# Altium schematic symbol library IC_chip.SchLib: 106 symbols (part 1 of 2)
Pins are listed as number, name and electrical type; pins without a type are passive.

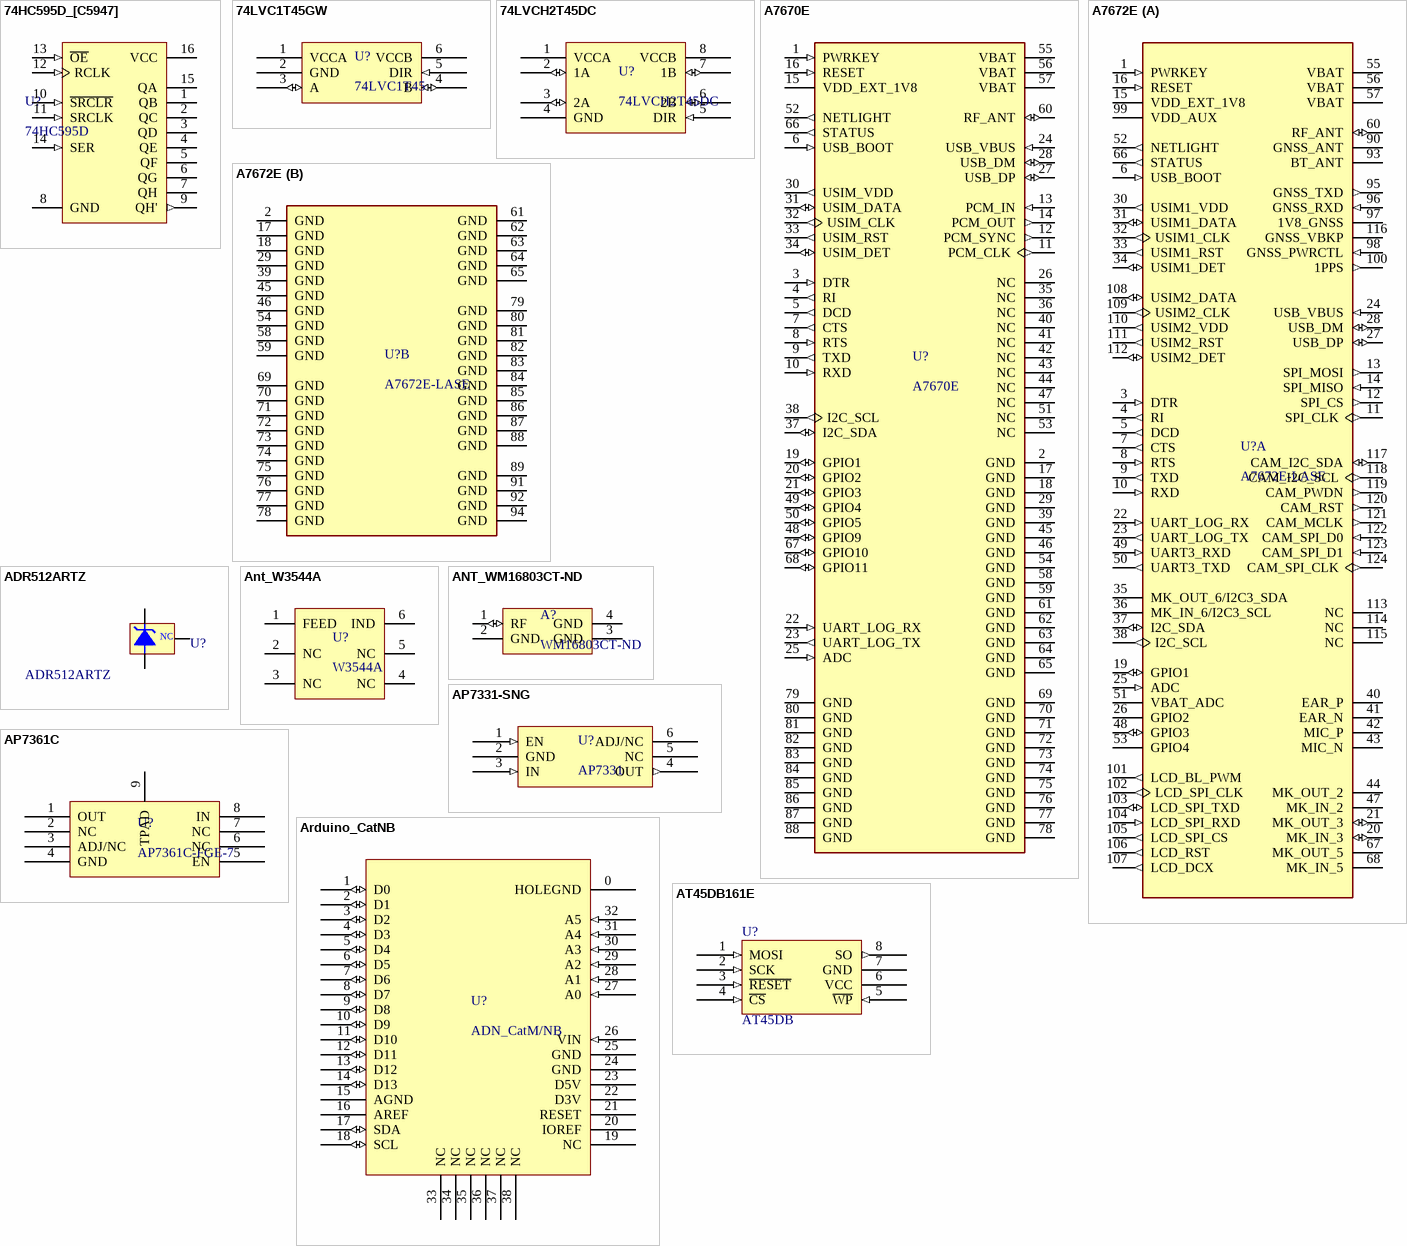
[diagram p0: symbols 74HC595D_[C5947] to AT45DB161E]

## 74HC595D_[C5947]
designator U?, comment 74HC595D
Package: SOIC-16_150mil; Supplier: LC; SuppliersPartNumber: C5947
footprint SOIC-16_150mil
pins: 1 QB (hiz), 2 QC (hiz), 3 QD (hiz), 4 QE (hiz), 5 QF (hiz), 6 QG (hiz), 7 QH (hiz), 8 GND (power), 9 QH' (out), 10 ~{SRCLR} (in), 11 SRCLK (in), 12 RCLK (in), 13 ~{OE} (in), 14 SER (in), 15 QA (hiz), 16 VCC (power)

## 74LVC1T45GW
designator U?, comment 74LVC1T45
IC 74LVC1T45GW-W100H Level Translator 6-TSSOP; Anunda_Code: M2037; DigiKey_PN:: 1727-8054-1-ND
footprint SOT363 (SOT363, 6-Leads, Body 2.00x2.10mm, Pitch 0.65mm, IPC Medium Density)
pins: 1 VCCA, 2 GND, 3 A (io), 4 B (io), 5 DIR (in), 6 VCCB

## 74LVCH2T45DC
designator U?
IC 74LVCH2T45DC-Q100H Level Translator VSSOP-8; DigiKey_PN:: 1727-8054-1-ND
footprint VSSOP-8 (TSSOP, 8-Leads, Body 2.00x2.30mm, Pitch 0.50mm, IPC Medium Density)
pins: 1 VCCA, 2 1A (io), 3 2A (io), 4 GND, 5 DIR (in), 6 2B (io), 7 1B (io), 8 VCCB

## A7670E
designator U?
4G LTE Module, SIMCOM A7670E; MP: A7670E; Package: None; MF: Simcom; Value: *; Price: None; SnapEDA_Link: https://www.snapeda.com/parts/SIM7600E-H/SIMcom%20Wireless%20solutions%20Co.%2CLtd/view-part/2758290/?ref=snap; Anunda_Code: *
footprint A7670X (LCC+LGA Package 88pin)
pins: 1 PWRKEY (in), 2 GND (power), 3 DTR (in), 4 RI (out), 5 DCD (out), 6 USB_BOOT (in), 7 CTS (out), 8 RTS (in), 9 TXD (out), 10 RXD (in), 11 PCM_CLK (out), 12 PCM_SYNC (out), 13 PCM_IN (in), 14 PCM_OUT (out), 15 VDD_EXT_1V8 (power), 16 RESET (in), 17 GND (power), 18 GND (power), 19 GPIO1 (io), 20 GPIO2 (io), 21 GPIO3 (io), 22 UART_LOG_RX (in), 23 UART_LOG_TX (out), 24 USB_VBUS (in), 25 ADC (in), 26 NC, 27 USB_DP (io), 28 USB_DM (io), 29 GND (power), 30 USIM_VDD (out), 31 USIM_DATA (io), 32 USIM_CLK (out), 33 USIM_RST (out), 34 USIM_DET (io), 35 NC, 36 NC, 37 I2C_SDA (io), 38 I2C_SCL (out), 39 GND (power), 40 NC, 41 NC, 42 NC, 43 NC, 44 NC, 45 GND (power), 46 GND (power), 47 NC, 48 GPIO9 (io), 49 GPIO4 (io), 50 GPIO5 (io), 51 NC, 52 NETLIGHT (out), 53 NC, 54 GND (power), 55 VBAT (power), 56 VBAT (power), 57 VBAT (power), 58 GND (power), 59 GND (power), 60 RF_ANT (io), 61 GND (power), 62 GND (power), 63 GND (power), 64 GND (power), 65 GND (power), 66 STATUS (out), 67 GPIO10 (io), 68 GPIO11 (io), 69 GND (power), 70 GND (power), 71 GND (power), 72 GND (power), 73 GND (power), 74 GND (power), 75 GND (power), 76 GND (power), 77 GND (power), 78 GND (power), 79 GND (power), 80 GND (power), 81 GND (power), 82 GND (power), 83 GND (power), 84 GND (power), 85 GND (power), 86 GND (power), 87 GND (power), 88 GND (power)

## A7672E
designator U?, comment A7672E-LASE
4G LTE Module, SIMCOM A7672E; MP: A7672E; Package: None; MF: Simcom; Value: A7672E-LASE; Price: None; SnapEDA_Link: https://www.snapeda.com/parts/SIM7600E-H/SIMcom%20Wireless%20solutions%20Co.%2CLtd/view-part/2758290/?ref=snap; Anunda_Code: *; MFG: SIMCOM; MFG P/N: A7672E-LASE
footprint A7672X (LCC+LGA Package 124pin)
part A pins: 1 PWRKEY (in), 3 DTR (in), 4 RI (out), 5 DCD (out), 6 USB_BOOT (in), 7 CTS (out), 8 RTS (in), 9 TXD (out), 10 RXD (in), 11 SPI_CLK (out), 12 SPI_CS (out), 13 SPI_MOSI (out), 14 SPI_MISO (in), 15 VDD_EXT_1V8 (power), 16 RESET (in), 19 GPIO1 (io), 20 MK_IN_3 (io), 21 MK_OUT_3 (io), 22 UART_LOG_RX (in), 23 UART_LOG_TX (out), 24 USB_VBUS (in), 25 ADC (in), 26 GPIO2, 27 USB_DP (io), 28 USB_DM (io), 30 USIM1_VDD (out), 31 USIM1_DATA (io), 32 USIM1_CLK (out), 33 USIM1_RST (out), 34 USIM1_DET (io), 35 MK_OUT_6/I2C3_SDA, 36 MK_IN_6/I2C3_SCL, 37 I2C_SDA (io), 38 I2C_SCL (out), 40 EAR_P, 41 EAR_N, 42 MIC_P, 43 MIC_N, 44 MK_OUT_2, 47 MK_IN_2, 48 GPIO3 (io), 49 UART3_RXD (in), 50 UART3_TXD (out), 51 VBAT_ADC, 52 NETLIGHT (out), 53 GPIO4, 55 VBAT (power), 56 VBAT (power), 57 VBAT (power), 60 RF_ANT (io), 66 STATUS (out), 67 MK_OUT_5, 68 MK_IN_5, 90 GNSS_ANT (power), 93 BT_ANT (power), 95 GNSS_TXD (out), 96 GNSS_RXD (in), 97 1V8_GNSS (power), 98 GNSS_PWRCTL (in), 99 VDD_AUX (power), 100 1PPS (out), 101 LCD_BL_PWM (out), 102 LCD_SPI_CLK (out), 103 LCD_SPI_TXD (io), 104 LCD_SPI_RXD (in), 105 LCD_SPI_CS (out), 106 LCD_RST (out), 107 LCD_DCX (out), 108 USIM2_DATA (io), 109 USIM2_CLK (out), 110 USIM2_VDD (out), 111 USIM2_RST (out), 112 USIM2_DET (io), 113 NC, 114 NC, 115 NC, 116 GNSS_VBKP (power), 117 CAM_I2C_SDA (io), 118 CAM_I2C_SCL (out), 119 CAM_PWDN (out), 120 CAM_RST (out), 121 CAM_MCLK (out), 122 CAM_SPI_D0 (in), 123 CAM_SPI_D1 (in), 124 CAM_SPI_CLK (out)
part B pins: 2 GND (power), 17 GND (power), 18 GND (power), 29 GND (power), 39 GND (power), 45 GND (power), 46 GND (power), 54 GND (power), 58 GND (power), 59 GND (power), 61 GND (power), 62 GND (power), 63 GND (power), 64 GND (power), 65 GND (power), 69 GND (power), 70 GND (power), 71 GND (power), 72 GND (power), 73 GND (power), 74 GND (power), 75 GND (power), 76 GND (power), 77 GND (power), 78 GND (power), 79 GND (power), 80 GND (power), 81 GND (power), 82 GND (power), 83 GND (power), 84 GND (power), 85 GND (power), 86 GND (power), 87 GND (power), 88 GND (power), 89 GND (power), 91 GND (power), 92 GND (power), 94 GND (power)

## ADR512ARTZ
designator U?
ADR512ARTZ VRef Shunt Precision 1.2V SOT-23-3
footprint SOT23_N_2
pins: 1 K, 2 A, 3 NC

## Ant_W3544A
designator U?, comment W3544A
LTE Antenna (W3544A) 850-900/1710-2170MHz PCB Trace; Anunda_Code: N2212
footprint W3544A (PulseLarsen W3544A GSM/3G Antenna)
pins: 1 FEED, 2 NC, 3 NC, 4 NC, 5 NC, 6 IND

## ANT_WM16803CT-ND
designator A?, comment WM16803CT-ND
SMD Ant. molex WM16803CT-ND
footprint WM16803CT-ND (molex gps ant)
pins: 1 RF (io), 2 GND, 3 GND, 4 GND

## AP7331-SNG
designator U?, comment AP7331
300mA, LOW QUIESCENT CU  RRENT, FAST TRANSIENT   LOW DROPOUT LINEAR REGULATOR
footprint DFN2020-6_HS-7N (SON, 6-Leads, Body 2.01x2.01mm, Pitch 0.65mm, Thermal Pad 1.55x0.73mm, IPC Medium Density)
pins: 1 EN (in), 2 GND, 3 IN (in), 4 OUT (out), 5 NC, 6 ADJ/NC

## AP7361C
designator U?, comment AP7361C-FGE-7
AP7361C-FGE-7   Low Dropout Adjustable 1A Regulator; Anunda_Code: M1966; Value: AP7361C-FGE-7
footprint U-DFN3030-8 (SON, 8-Leads, Body 3.00x3.00mm, Pitch 0.65mm, Thermal Pad 2.25x1.34mm, IPC Medium Density)
pins: 1 OUT, 2 NC, 3 ADJ/NC, 4 GND, 5 EN, 6 NC, 7 NC, 8 IN, 9 TPAD

## Arduino_CatNB
designator U?, comment ADN_CatM/NB
Arduino Shield Cat.M1/NB
footprint ADN_NB (Arduino Shield Cat. M1/NB)
pins: 0 HOLEGND, 1 D0 (io), 2 D1 (io), 3 D2 (io), 4 D3 (io), 5 D4 (io), 6 D5 (io), 7 D6 (io), 8 D7 (io), 9 D8 (io), 10 D9 (io), 11 D10 (io), 12 D11 (io), 13 D12 (io), 14 D13 (io), 15 AGND, 16 AREF, 17 SDA (io), 18 SCL (io), 19 NC, 20 IOREF, 21 RESET, 22 D3V (power), 23 D5V (power), 24 GND, 25 GND, 26 VIN (in), 27 A0 (in), 28 A1 (in), 29 A2 (in), 30 A3 (in), 31 A4 (in), 32 A5 (in), 33 NC, 34 NC, 35 NC, 36 NC, 37 NC, 38 NC

## AT45DB161E
designator U?, comment AT45DB
AT45DB161E-SUD-T Flash Memory 16M, 2.5-3.6V SPI SOIC-8; Anunda_Code: M1909
footprint SOIC-8_208mil
pins: 1 MOSI (in), 2 SCK (in), 3 ~{RESET} (in), 4 ~{CS} (in), 5 ~{WP} (in), 6 VCC (power), 7 GND, 8 SO (out)

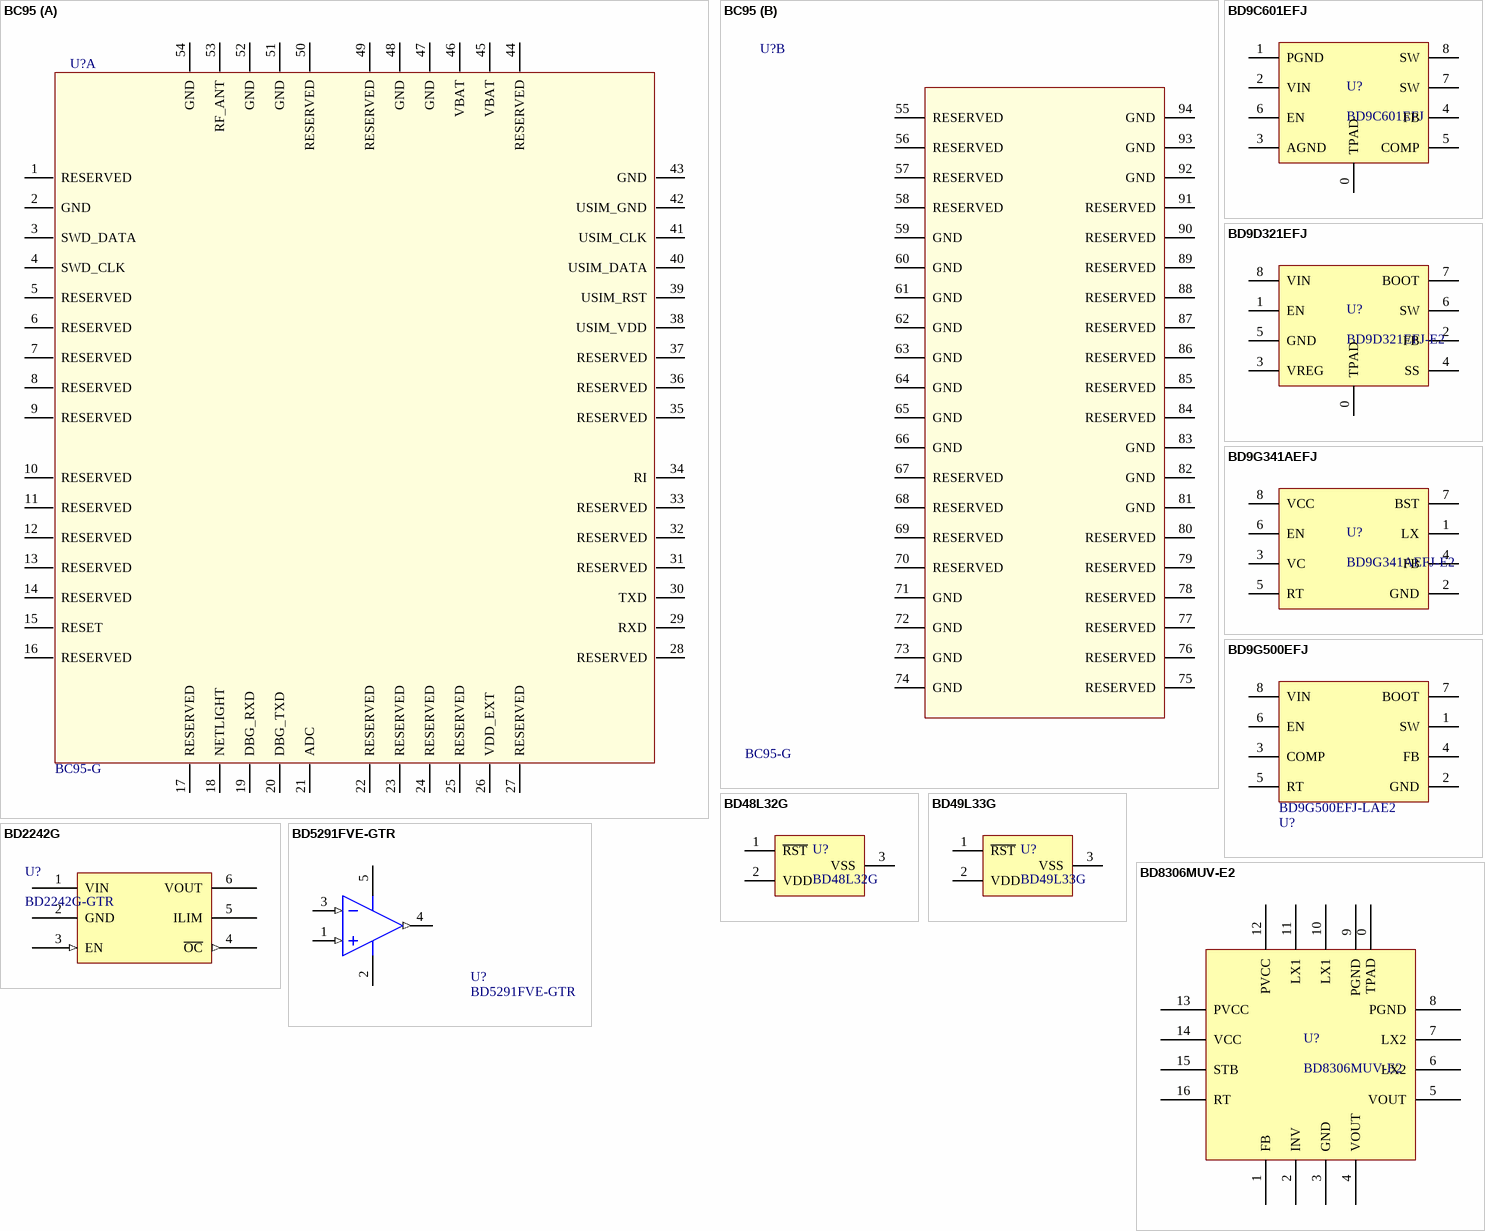
[diagram p1: symbols BC95 to BD8306MUV-E2]

## BC95
designator U?, comment BC95-G
LTE  NB-IoT Module, Model : BC95-G, Quectel; Anunda_Code: N2123; Value: *; Part Description: *; PCB DECAL: *
footprint BC95
part A pins: 1 RESERVED, 2 GND, 3 SWD_DATA, 4 SWD_CLK, 5 RESERVED, 6 RESERVED, 7 RESERVED, 8 RESERVED, 9 RESERVED, 10 RESERVED, 11 RESERVED, 12 RESERVED, 13 RESERVED, 14 RESERVED, 15 RESET, 16 RESERVED, 17 RESERVED, 18 NETLIGHT, 19 DBG_RXD, 20 DBG_TXD, 21 ADC, 22 RESERVED, 23 RESERVED, 24 RESERVED, 25 RESERVED, 26 VDD_EXT, 27 RESERVED, 28 RESERVED, 29 RXD, 30 TXD, 31 RESERVED, 32 RESERVED, 33 RESERVED, 34 RI, 35 RESERVED, 36 RESERVED, 37 RESERVED, 38 USIM_VDD, 39 USIM_RST, 40 USIM_DATA, 41 USIM_CLK, 42 USIM_GND, 43 GND, 44 RESERVED, 45 VBAT, 46 VBAT, 47 GND, 48 GND, 49 RESERVED, 50 RESERVED, 51 GND, 52 GND, 53 RF_ANT, 54 GND
part B pins: 55 RESERVED, 56 RESERVED, 57 RESERVED, 58 RESERVED, 59 GND, 60 GND, 61 GND, 62 GND, 63 GND, 64 GND, 65 GND, 66 GND, 67 RESERVED, 68 RESERVED, 69 RESERVED, 70 RESERVED, 71 GND, 72 GND, 73 GND, 74 GND, 75 RESERVED, 76 RESERVED, 77 RESERVED, 78 RESERVED, 79 RESERVED, 80 RESERVED, 81 GND, 82 GND, 83 GND, 84 RESERVED, 85 RESERVED, 86 RESERVED, 87 RESERVED, 88 RESERVED, 89 RESERVED, 90 RESERVED, 91 RESERVED, 92 GND, 93 GND, 94 GND
2 alternate drawings of the same symbol

## BD9C601EFJ
designator U?
footprint HTSOP-J8 (TSOP, 8-Leads, Body 4.90x3.90mm, Pitch 1.27mm, Thermal Pad 3.20x2.40mm, IPC Medium Density)
pins: 0 TPAD, 1 PGND, 2 VIN, 3 AGND, 4 FB, 5 COMP, 6 EN, 7 SW, 8 SW

## BD9D321EFJ
designator U?, comment BD9D321EFJ-E2
IC BD9D321EFJ-E2 Buck Converter 0.765-7V 3A HTSOP-J8; Anunda_Code: D1094; MFG: Rohm Semiconductor; MFG P/N: BD9D321EFJ-E2; Value: BD9D321EFJ-E2
footprint HTSOP-J8 (TSOP, 8-Leads, Body 4.90x3.90mm, Pitch 1.27mm, Thermal Pad 3.20x2.40mm, IPC Medium Density)
pins: 0 TPAD, 1 EN, 2 FB, 3 VREG, 4 SS, 5 GND, 6 SW, 7 BOOT, 8 VIN

## BD9G341AEFJ
designator U?, comment BD9G341AEFJ-E2
IC BD9G341AEFJ-E2 REGULATOR 12-76V 3A; Anunda_Code: M2139; MFG: Rohm Semiconductor; Value: BD9G341AEFJ-E2; MFG P/N: BD9G341AEFJ-E2
footprint HTSOP-J8 (TSOP, 8-Leads, Body 4.90x3.90mm, Pitch 1.27mm, Thermal Pad 3.20x2.40mm, IPC Medium Density)
pins: 0 TPAD hidden to TPAD "Thermal Pad Net", 1 LX, 2 GND, 3 VC, 4 FB, 5 RT, 6 EN, 7 BST, 8 VCC

## BD9G500EFJ
designator U?, comment BD9G500EFJ-LAE2
IC BD9G500EFJ-LAE2 REGULATOR 12-76V 5A; Anunda_Code: M2159; MFG: Rohm Semiconductor; Value: BD9G500EFJ-LAE2; MFG P/N: BD9G500EFJ-LAE2
footprint HTSOP-J8 (TSOP, 8-Leads, Body 4.90x3.90mm, Pitch 1.27mm, Thermal Pad 3.20x2.40mm, IPC Medium Density)
pins: 0 TPAD hidden to TPAD "Thermal Pad Net", 1 SW, 2 GND, 3 COMP, 4 FB, 5 RT, 6 EN, 7 BOOT, 8 VIN

## BD48L32G
designator U?
BD48L32G  Voltage Supervisor 3.2V,Open Drain ,Active LOW; Anunda_Code: M2002; Value: BD48L32G
footprint SOT23_N_2
pins: 1 ~{RST}, 2 VDD, 3 VSS

## BD49L33G
designator U?
IC BD49L33G-TL Power Management 1-CH 3-SSOP; Anunda_Code: M2025; Value: BD49L33G
footprint SOT23_N_2
pins: 1 ~{RST}, 2 VDD, 3 VSS

## BD2242G
designator U?, comment BD2242G-GTR
1ch Adjustable Current Limit High Side Switch ICs, Open-Drain Fault Flag Output,Active-High Control Input Logic,Soft-Start Circuit; MFG: Rohm Semiconductor; Value: BD2242G-GTR; Anunda_Code: *; MFG P/N: BD2242G-GTR
footprint SOT-23-6
pins: 1 VIN (power), 2 GND, 3 EN (in), 4 ~{OC} (out), 5 ILIM, 6 VOUT (power)

## BD5291FVE-GTR
designator U?
BD5291FVE-GTR  Input/Output Full Swing  Low Input Offset Voltage  Operational Amplifier; Anunda_Code: M1954; MFG: Rohm Semiconductor; Supplier 1: ES; Supplier Part Number 1: 0176-1479-3; MFG P/N: BD5291FVE-GTR
footprint VSOF5 (SOT23, 5-Leads, Body 1.60x1.60mm, Pitch 0.50mm, IPC Medium Density)
pins: 1 IN+ (in), 2 VSS (power), 3 IN- (in), 4 OUT (out), 5 VDD (power)

## BD8306MUV-E2
designator U?
BD8306MUV-E2 Buck-Boost Converter 1.8V to 5.5V integrated 2.0A; Anunda_Code: D1095; MFG: Rohm Semiconductor; Value: BD8306MUV-E2; MFG P/N: BD8306MUV-E2
footprint VQFN016V3030 (QFN, 16-Leads, Body 3.00x3.00mm, Pitch 0.50mm, Thermal Pad 1.40x1.40mm, IPC Medium Density)
pins: 0 TPAD, 1 FB, 2 INV, 3 GND, 4 VOUT, 5 VOUT, 6 LX2, 7 LX2, 8 PGND, 9 PGND, 10 LX1, 11 LX1, 12 PVCC, 13 PVCC, 14 VCC, 15 STB, 16 RT

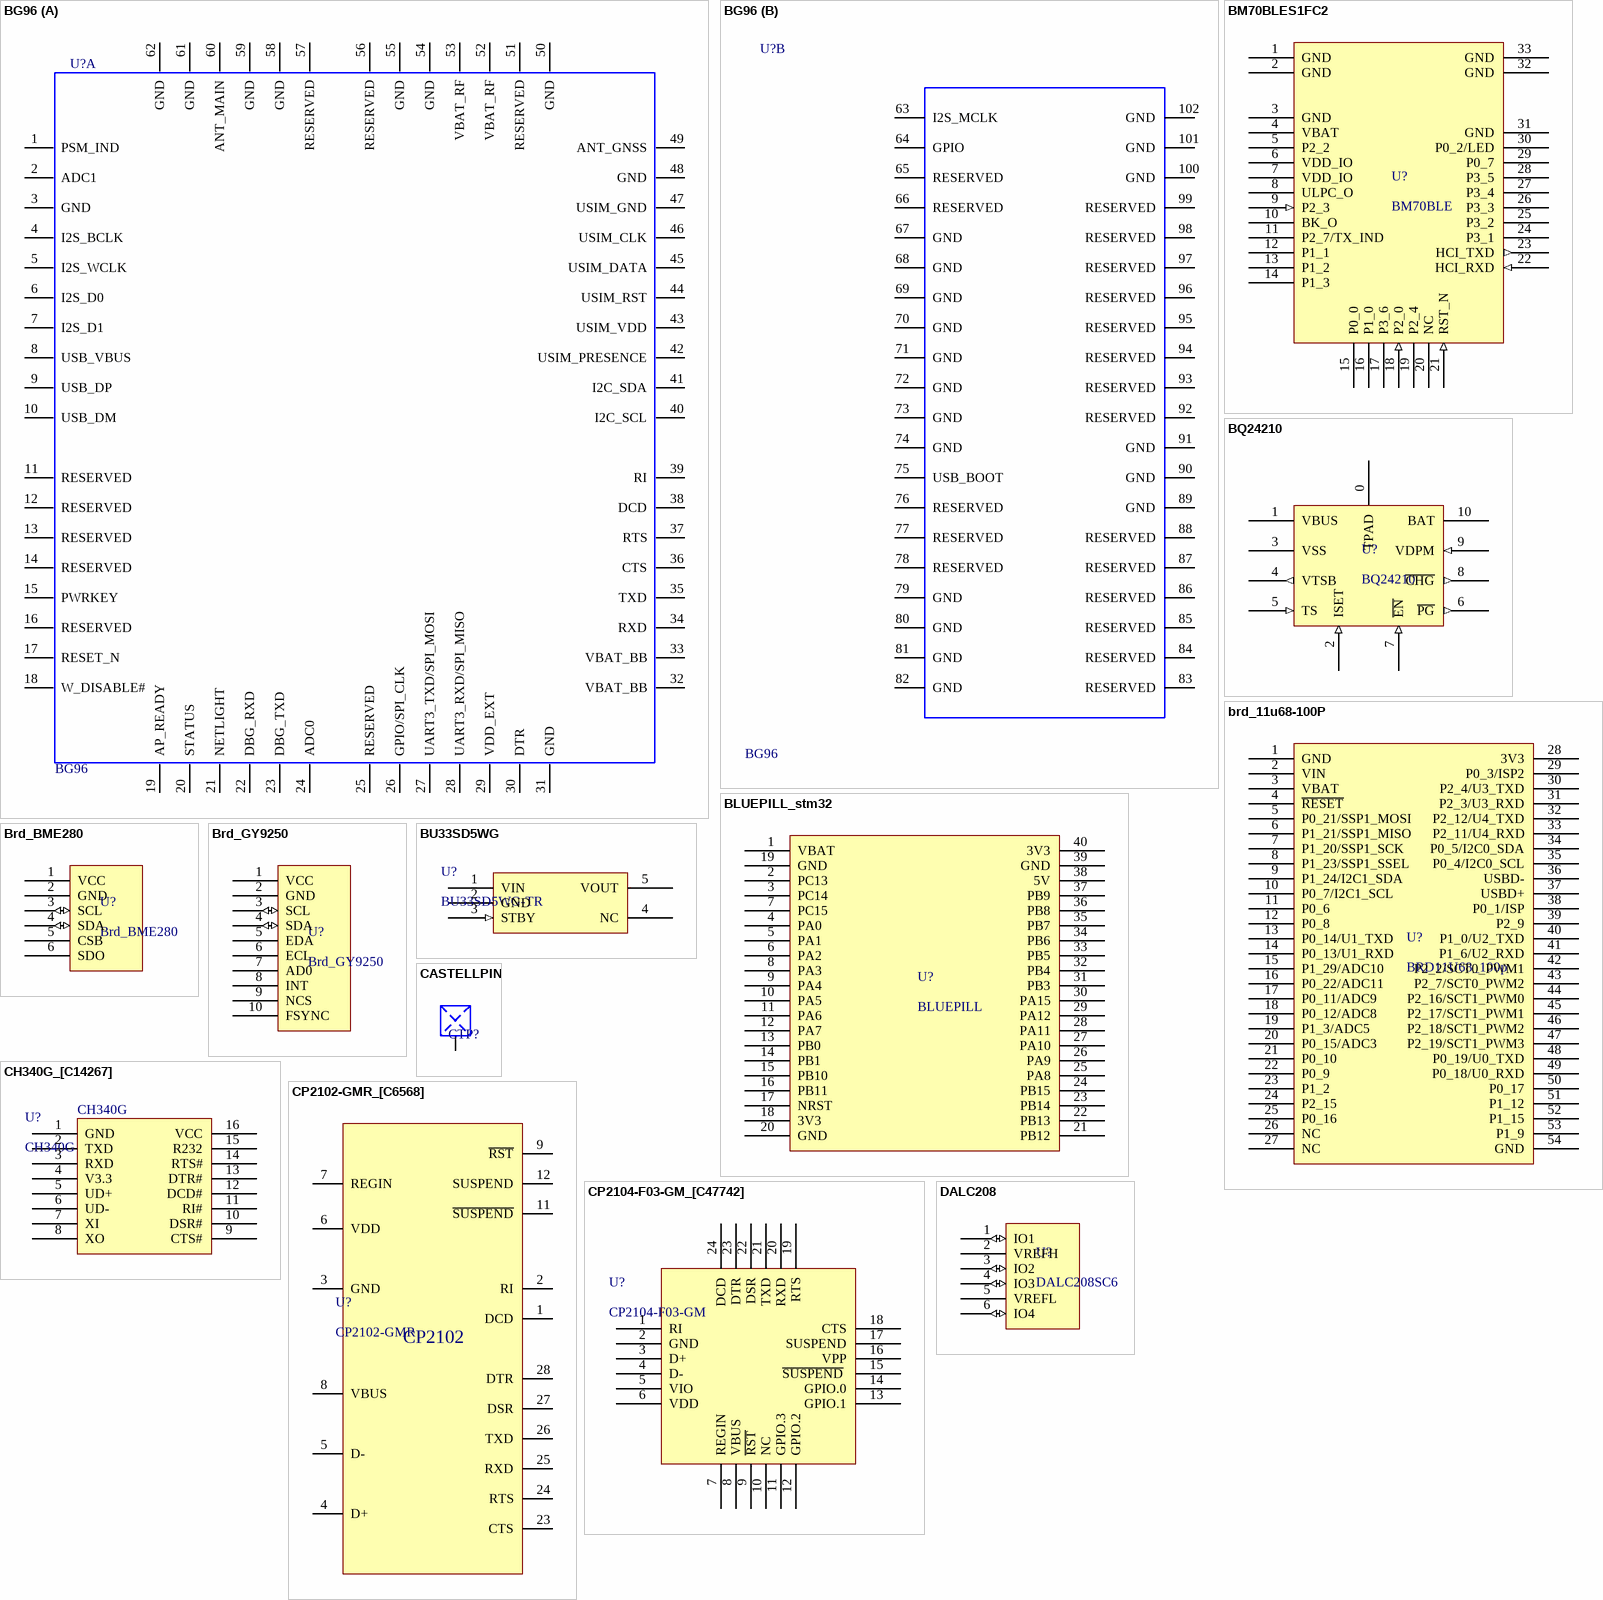
[diagram p2: symbols BG96 to DALC208]

## BG96
designator U?
BG96 IoT NB/Cat.M1 RF Module  Quectel; Value: *; Part Description: *; PCB DECAL: *
footprint BG96 (BG96 IoT NB/Cat.M1 RF Module  Quectel)
part A pins: 1 PSM_IND, 2 ADC1, 3 GND, 4 I2S_BCLK, 5 I2S_WCLK, 6 I2S_D0, 7 I2S_D1, 8 USB_VBUS, 9 USB_DP, 10 USB_DM, 11 RESERVED, 12 RESERVED, 13 RESERVED, 14 RESERVED, 15 PWRKEY, 16 RESERVED, 17 RESET_N, 18 W_DISABLE#, 19 AP_READY, 20 STATUS, 21 NETLIGHT, 22 DBG_RXD, 23 DBG_TXD, 24 ADC0, 25 RESERVED, 26 GPIO/SPI_CLK, 27 UART3_TXD/SPI_MOSI, 28 UART3_RXD/SPI_MISO, 29 VDD_EXT, 30 DTR, 31 GND, 32 VBAT_BB, 33 VBAT_BB, 34 RXD, 35 TXD, 36 CTS, 37 RTS, 38 DCD, 39 RI, 40 I2C_SCL, 41 I2C_SDA, 42 USIM_PRESENCE, 43 USIM_VDD, 44 USIM_RST, 45 USIM_DATA, 46 USIM_CLK, 47 USIM_GND, 48 GND, 49 ANT_GNSS, 50 GND, 51 RESERVED, 52 VBAT_RF, 53 VBAT_RF, 54 GND, 55 GND, 56 RESERVED, 57 RESERVED, 58 GND, 59 GND, 60 ANT_MAIN, 61 GND, 62 GND
part B pins: 63 I2S_MCLK, 64 GPIO, 65 RESERVED, 66 RESERVED, 67 GND, 68 GND, 69 GND, 70 GND, 71 GND, 72 GND, 73 GND, 74 GND, 75 USB_BOOT, 76 RESERVED, 77 RESERVED, 78 RESERVED, 79 GND, 80 GND, 81 GND, 82 GND, 83 RESERVED, 84 RESERVED, 85 RESERVED, 86 RESERVED, 87 RESERVED, 88 RESERVED, 89 GND, 90 GND, 91 GND, 92 RESERVED, 93 RESERVED, 94 RESERVED, 95 RESERVED, 96 RESERVED, 97 RESERVED, 98 RESERVED, 99 RESERVED, 100 GND, 101 GND, 102 GND
2 alternate drawings of the same symbol

## BLUEPILL_stm32
designator U?, comment BLUEPILL
Arduino STM32F103C8T6 ARM STM32 with Bootloader; Anunda_Code: N2111
footprint BLUEPILL_STM32
pins: 1 VBAT, 2 PC13, 3 PC14 (power), 4 PA0 (power), 5 PA1, 6 PA2, 7 PC15, 8 PA3, 9 PA4, 10 PA5, 11 PA6, 12 PA7, 13 PB0, 14 PB1, 15 PB10, 16 PB11, 17 NRST, 18 3V3, 19 GND, 20 GND, 21 PB12, 22 PB13, 23 PB14, 24 PB15, 25 PA8, 26 PA9, 27 PA10, 28 PA11, 29 PA12, 30 PA15, 31 PB3, 32 PB4, 33 PB5, 34 PB6, 35 PB7, 36 PB8, 37 PB9, 38 5V, 39 GND, 40 3V3

## BM70BLES1FC2
designator U?, comment BM70BLE
BM70BLES1FC2  Bluetooth 5 (BLE) Module Integrated Ant 1.9-3.6Vrate; Anunda_Code: N2414
footprint BM70BLES1 (Footprint for BM70BLES1FC2)
pins: 1 GND, 2 GND, 3 GND, 4 VBAT (power), 5 P2_2, 6 VDD_IO, 7 VDD_IO, 8 ULPC_O, 9 P2_3 (in), 10 BK_O, 11 P2_7/TX_IND, 12 P1_1, 13 P1_2, 14 P1_3, 15 P0_0, 16 P1_0, 17 P3_6, 18 P2_0 (in), 19 P2_4, 20 NC, 21 RST_N (in), 22 HCI_RXD (in), 23 HCI_TXD (out), 24 P3_1, 25 P3_2, 26 P3_3, 27 P3_4, 28 P3_5, 29 P0_7, 30 P0_2/LED, 31 GND, 32 GND, 33 GND

## BQ24210
designator U?
bq24210 800-mA, Single-Input, Single-Cell Li-Ion Battery Solar Charger; Anunda_Code: M1972; Value: BQ24210
footprint 10-WSON_2x3 (SON, 10-Leads, Body 3.00x2.00mm, Pitch 0.50mm, Thermal Pad 2.40x0.79mm, IPC Medium Density)
pins: 0 TPAD "Thermal Pad Net", 1 VBUS, 2 ISET (in), 3 VSS, 4 VTSB (out), 5 TS (in), 6 ~{PG} (out), 7 ~{EN} (in), 8 ~{CHG} (out), 9 VDPM (in), 10 BAT

## brd_11u68-100P
designator U?, comment BRD11U68_100p
footprint BRD_11u68-100p
pins: 1 GND, 2 VIN, 3 VBAT, 4 ~{RESET}, 5 P0_21/SSP1_MOSI, 6 P1_21/SSP1_MISO, 7 P1_20/SSP1_SCK, 8 P1_23/SSP1_SSEL, 9 P1_24/I2C1_SDA, 10 P0_7/I2C1_SCL, 11 P0_6, 12 P0_8, 13 P0_14/U1_TXD, 14 P0_13/U1_RXD, 15 P1_29/ADC10, 16 P0_22/ADC11, 17 P0_11/ADC9, 18 P0_12/ADC8, 19 P1_3/ADC5, 20 P0_15/ADC3, 21 P0_10, 22 P0_9, 23 P1_2, 24 P2_15, 25 P0_16, 26 NC, 27 NC, 28 3V3, 29 P0_3/ISP2, 30 P2_4/U3_TXD, 31 P2_3/U3_RXD, 32 P2_12/U4_TXD, 33 P2_11/U4_RXD, 34 P0_5/I2C0_SDA, 35 P0_4/I2C0_SCL, 36 USBD-, 37 USBD+, 38 P0_1/ISP, 39 P2_9, 40 P1_0/U2_TXD, 41 P1_6/U2_RXD, 42 P2_2/SCT0_PWM1, 43 P2_7/SCT0_PWM2, 44 P2_16/SCT1_PWM0, 45 P2_17/SCT1_PWM1, 46 P2_18/SCT1_PWM2, 47 P2_19/SCT1_PWM3, 48 P0_19/U0_TXD, 49 P0_18/U0_RXD, 50 P0_17, 51 P1_12, 52 P1_15, 53 P1_9, 54 GND

## Brd_BME280
designator U?
Module BME280
footprint BRD_BME280_PL850 (SAMTECH 2.54mm Header 4.85mm insulator)
pins: 1 VCC, 2 GND, 3 SCL (io), 4 SDA (io), 5 CSB, 6 SDO

## Brd_GY9250
designator U?
Module GY9250
footprint BRD_GY9250
pins: 1 VCC, 2 GND, 3 SCL (io), 4 SDA (io), 5 EDA, 6 ECL, 7 AD0, 8 INT, 9 NCS, 10 FSYNC

## BU33SD5WG
designator U?, comment BU33SD5WG-TR
CMOS LDO Regulators 1Ch 3.3V/500mA Accuracy ±2%, for Portable Equipment; Anunda_Code: M2160; MFG: Rohm Semiconductor; Value: BU33SD5WG-TR; MFG P/N: BU33SD5WG-TR
footprint SOT-23-5
pins: 1 VIN (power), 2 GND, 3 STBY (in), 4 NC, 5 VOUT (power)

## CASTELLPIN
designator CTP?  (net tie, no BOM)
Edge Castellation PCB pin; ClassName: CASTELLPIN
footprint CASTELLPIN
pins: 1 a

## CH340G_[C14267]
designator U?, comment CH340G
USB; Package: SOIC-16_150mil; Supplier: LC; SuppliersPartNumber: C14267
footprint SOIC-16_150mil
pins: 1 GND, 2 TXD, 3 RXD, 4 V3.3, 5 UD+, 6 UD-, 7 XI, 8 XO, 9 CTS#, 10 DSR#, 11 RI#, 12 DCD#, 13 DTR#, 14 RTS#, 15 R232, 16 VCC

## CP2102-GMR_[C6568]
designator U?, comment CP2102-GMR
USB; Package: QFN-28_5x5x05P; Supplier: LC; SuppliersPartNumber: C6568
footprint QFN-28_5x5x05P
pins: 1 DCD, 2 RI, 3 GND, 4 D+, 5 D-, 6 VDD, 7 REGIN, 8 VBUS, 9 ~{RST}, 11 ~{SUSPEND}, 12 SUSPEND, 23 CTS, 24 RTS, 25 RXD, 26 TXD, 27 DSR, 28 DTR
text: CP2102

## CP2104-F03-GM_[C47742]
designator U?, comment CP2104-F03-GM
USB; Package: QFN-24_4x4x05P; Supplier: LC; SuppliersPartNumber: C47742
footprint QFN-24_4x4x05P
pins: 1 RI, 2 GND, 3 D+, 4 D-, 5 VIO, 6 VDD, 7 REGIN, 8 VBUS, 9 ~{RST}, 10 NC, 11 GPIO.3, 12 GPIO.2, 13 GPIO.1, 14 GPIO.0, 15 ~{SUSPEND} , 16 VPP, 17 SUSPEND, 18 CTS, 19 RTS, 20 RXD, 21 TXD, 22 DSR, 23 DTR, 24 DCD

## DALC208
designator U?, comment DALC208SC6
Diode DALC208SC6 Diode suppresssor 9V SOT23-6; Anunda_Code: M1349; MFG: STMicroelectronics; Value: DALC208SC6; MFG P/N: DALC208SC6
footprint SOT23-6
pins: 1 IO1 (io), 2 VREFH, 3 IO2 (io), 4 IO3 (io), 5 VREFL, 6 IO4 (io)

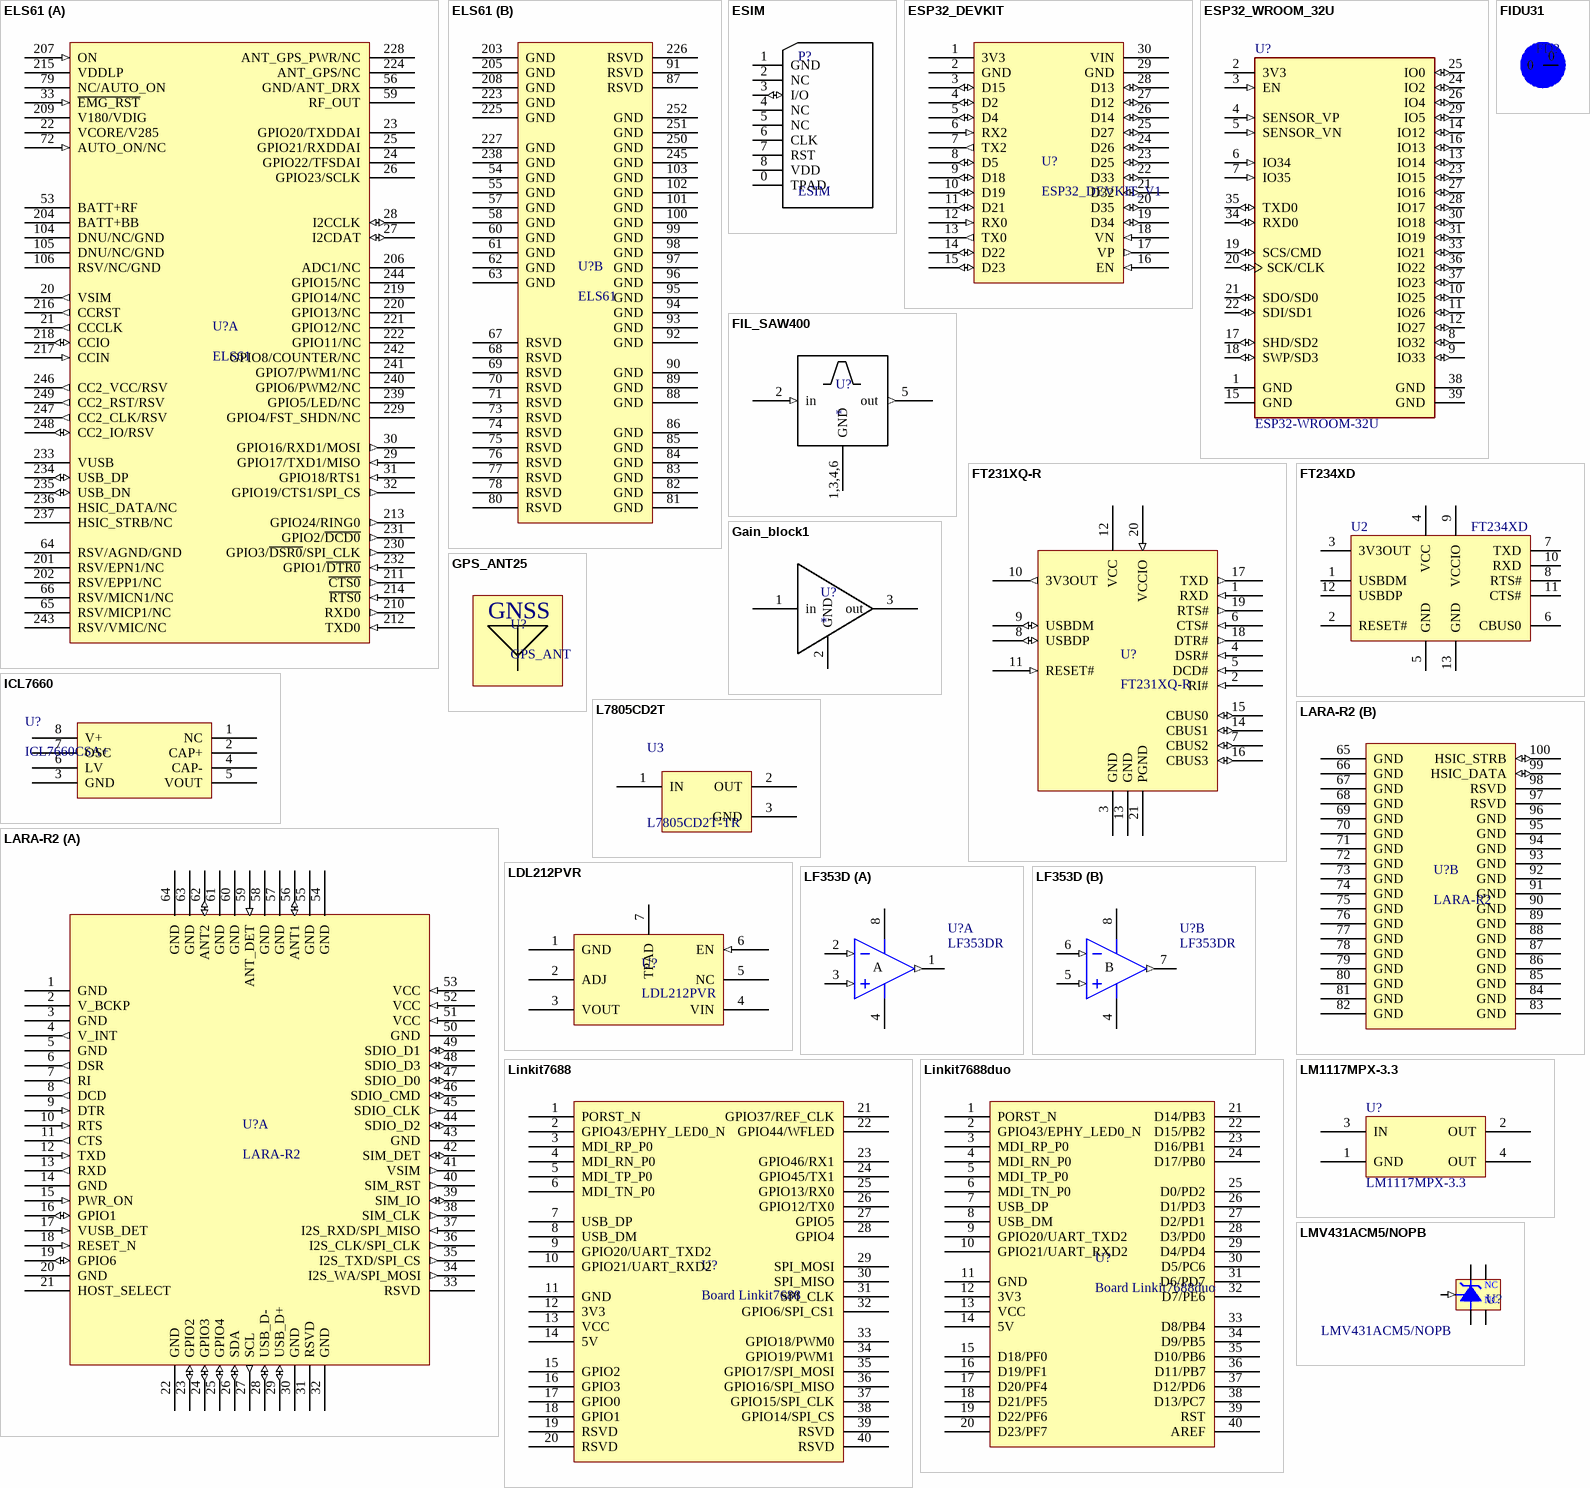
[diagram p3: symbols ELS61 to LMV431ACM5/NOPB]

## ELS61
designator U?
Value: ELS61
footprint ELS61
part A pins: 20 VSIM (out), 21 CCCLK (out), 22 VCORE/V285, 23 GPIO20/TXDDAI, 24 GPIO22/TFSDAI, 25 GPIO21/RXDDAI, 26 GPIO23/SCLK, 27 I2CDAT (io), 28 I2CCLK (io), 29 GPIO17/TXD1/MISO (in), 30 GPIO16/RXD1/MOSI (out), 31 GPIO18/RTS1 (in), 32 GPIO19/CTS1/SPI_CS (out), 33 ~{EMG_RST} (in), 53 BATT+RF (power), 56 GND/ANT_DRX, 59 RF_OUT, 64 RSV/AGND/GND, 65 RSV/MICP1/NC, 66 RSV/MICN1/NC, 72 AUTO_ON/NC (in), 79 NC/AUTO_ON, 104 DNU/NC/GND, 105 DNU/NC/GND, 106 RSV/NC/GND, 201 RSV/EPN1/NC, 202 RSV/EPP1/NC, 204 BATT+BB (power), 206 ADC1/NC, 207 ON (in), 209 V180/VDIG, 210 RXD0 (out), 211 ~{CTS0} (out), 212 TXD0 (in), 213 GPIO24/RING0 (out), 214 ~{RTS0} (in), 215 VDDLP, 216 CCRST (out), 217 CCIN (in), 218 CCIO (io), 219 GPIO14/NC, 220 GPIO13/NC, 221 GPIO12/NC, 222 GPIO11/NC, 224 ANT_GPS/NC, 228 ANT_GPS_PWR/NC, 229 GPIO4/FST_SHDN/NC, 230 GPIO3/~{DSR0}/SPI_CLK (out), 231 GPIO2/~{DCD0} (out), 232 GPIO1/~{DTR0} (in), 233 VUSB, 234 USB_DP (io), 235 USB_DN (io), 236 HSIC_DATA/NC, 237 HSIC_STRB/NC, 239 GPIO5/LED/NC, 240 GPIO6/PWM2/NC, 241 GPIO7/PWM1/NC, 242 GPIO8/COUNTER/NC, 243 RSV/VMIC/NC, 244 GPIO15/NC, 246 CC2_VCC/RSV (out), 247 CC2_CLK/RSV (out), 248 CC2_IO/RSV (io), 249 CC2_RST/RSV (out)
part B pins: 54 GND, 55 GND, 57 GND, 58 GND, 60 GND, 61 GND, 62 GND, 63 GND, 67 RSVD, 68 RSVD, 69 RSVD, 70 RSVD, 71 RSVD, 73 RSVD, 74 RSVD, 75 RSVD, 76 RSVD, 77 RSVD, 78 RSVD, 80 RSVD, 81 GND, 82 GND, 83 GND, 84 GND, 85 GND, 86 GND, 87 RSVD, 88 GND, 89 GND, 90 GND, 91 RSVD, 92 GND, 93 GND, 94 GND, 95 GND, 96 GND, 97 GND, 98 GND, 99 GND, 100 GND, 101 GND, 102 GND, 103 GND, 203 GND, 205 GND, 208 GND, 223 GND, 225 GND, 226 RSVD, 227 GND, 238 GND, 245 GND, 250 GND, 251 GND, 252 GND

## ESIM
designator P?
MFF2 5x6 mm eSIM QFN-8
footprint MFF2-eSIM (QFN, 8-Leads, Body 6.08x5.08mm, Pitch 1.27mm, Thermal Pad 3.45x4.25mm, IPC Medium Density)
pins: 0 TPAD, 1 GND, 2 NC, 3 I/O (io), 4 NC, 5 NC, 6 CLK, 7 RST, 8 VDD

## ESP32_DEVKIT
designator U?, comment ESP32_DEVKIT_V1
Value: ESP32_DEVKIT_V1
footprint ESP32_DEV_KIT
pins: 1 3V3 (power), 2 GND (power), 3 D15 (io), 4 D2 (io), 5 D4 (io), 6 RX2 (in), 7 TX2 (out), 8 D5 (io), 9 D18 (io), 10 D19 (io), 11 D21 (io), 12 RX0 (in), 13 TX0 (out), 14 D22 (io), 15 D23 (io), 16 EN (in), 17 VP (out), 18 VN (in), 19 D34 (io), 20 D35 (io), 21 D32 (io), 22 D33 (io), 23 D25 (io), 24 D26 (io), 25 D27 (io), 26 D14 (io), 27 D12 (io), 28 D13 (io), 29 GND (power), 30 VIN (power)

## ESP32_WROOM_32U
designator U?, comment ESP32-WROOM-32U
Espressif Systems ESP32-WROOM-32U Module; MFG P/N: ESP32-WROOM-32D; Replacement: ESP32-WROOM-32D (ES:1082-0002-1); Anunda_Code: N2700; Supplier: ES:1082-0005-7; UnitPrice: 131.80 THB
footprint ESP32
pins: 1 GND (power), 2 3V3 (power), 3 EN (in), 4 SENSOR_VP (in), 5 SENSOR_VN (in), 6 IO34 (in), 7 IO35 (in), 8 IO32 (io), 9 IO33 (io), 10 IO25 (io), 11 IO26 (io), 12 IO27 (io), 13 IO14 (io), 14 IO12 (io), 15 GND (power), 16 IO13 (io), 17 SHD/SD2 (io), 18 SWP/SD3 (io), 19 SCS/CMD (io), 20 SCK/CLK (io), 21 SDO/SD0 (io), 22 SDI/SD1 (io), 23 IO15 (io), 24 IO2 (io), 25 IO0 (io), 26 IO4 (io), 27 IO16 (io), 28 IO17 (io), 29 IO5 (io), 30 IO18 (io), 31 IO19 (io), 33 IO21 (io), 34 RXD0 (io), 35 TXD0 (io), 36 IO22 (io), 37 IO23 (io), 38 GND (power), 39 GND (power)

## FIDU31
designator FD?  (value not drawn)  (net tie, no BOM)
footprint FIDUCIAL_13
pins: 0

## FIL_SAW400
designator U?
footprint SAW3X3 (SAW Filter 3*3*1 mm 6-pins)
pins: 1,3,4,6 GND, 2 in (in), 5 out (out)

## FT231XQ-R
designator U?
IC FT231XQ-R USB to Serial UART Interface w/ Dull Modem CTRL; Anunda_Code: D0963
footprint QFN20 (QFN, 20-Leads, Body 4.00x4.00mm, Pitch 0.50mm, Thermal Pad 1.98x1.98mm, IPC Medium Density)
pins: 1 RXD (in), 2 RI# (in), 3 GND, 4 DSR# (in), 5 DCD# (in), 6 CTS# (in), 7 CBUS2 (io), 8 USBDP (io), 9 USBDM (io), 10 3V3OUT (out), 11 RESET# (in), 12 VCC (power), 13 GND, 14 CBUS1 (io), 15 CBUS0 (io), 16 CBUS3 (io), 17 TXD (out), 18 DTR# (out), 19 RTS# (out), 20 VCCIO (in), 21 PGND

## FT234XD
designator U2
M1728 IC FT234XD-R USB to Serial UART 12DFN
footprint DFN12_3x3 (SON, 12-Leads, Body 3.00x3.00mm, Pitch 0.45mm, Thermal Pad 2.48x1.58mm, IPC Medium Density)
pins: 1 USBDM, 2 RESET#, 3 3V3OUT, 4 VCC, 5 GND, 6 CBUS0, 7 TXD, 8 RTS#, 9 VCCIO, 10 RXD, 11 CTS#, 12 USBDP, 13 GND

## Gain_block1
designator U?
footprint SOT-89-MB3_M (SOT89, 3-Leads, Body 4.5x2.4 mm, Pitch 1.5mm, Lead Span 4.1mm, IPC Low Density)
pins: 1 in, 2 GND, 3 out

## GPS_ANT25
designator U?, comment GPS_ANT
GNSS active antenna 25x25 mm
footprint GPS_ANT25BACK (dimension25x25x4.5)
text: GNSS

## ICL7660
designator U?, comment ICL7660CSA+
IC ICL7660CSA+ Regulator Charge Pump INV 20mA 8-SO; Anunda_Code: M2075; MFG P/N: ICL7660CSA+-ND; Value: ICL7660CSA+
footprint SOIC127P600X175-8N (SOIC, 8-Leads, Body 4.90x3.90mm, Pitch 1.27mm, IPC Medium Density)
pins: 1 NC, 2 CAP+, 3 GND, 4 CAP-, 5 VOUT, 6 LV, 7 OSC, 8 V+

## L7805CD2T
designator U3, comment L7805CD2T-TR
IC 7805 Regulator 5V D2PAK; Anunda_Code: M0693; Value: L7805CD2T-TR
footprint D2PAK (D2-PAK, 3-Pads, Body 9.35x10.4mm (max), IPC Medium Density)
pins: 1 IN (power), 2 OUT (power), 3 GND (power)

## LARA-R2
designator U?
LARA MODULE UBLOX; Value: LARA-R2
footprint SARA_LARA (SARA UBLOX MODULE)
part A pins: 1 GND, 2 V_BCKP, 3 GND, 4 V_INT (out), 5 GND, 6 DSR (out), 7 RI (out), 8 DCD (out), 9 DTR (in), 10 RTS (in), 11 CTS (out), 12 TXD (in), 13 RXD (out), 14 GND, 15 PWR_ON (in), 16 GPIO1 (io), 17 VUSB_DET (in), 18 RESET_N (in), 19 GPIO6 (io), 20 GND, 21 HOST_SELECT, 22 GND, 23 GPIO2 (io), 24 GPIO3 (io), 25 GPIO4 (io), 26 SDA (io), 27 SCL (out), 28 USB_D- (io), 29 USB_D+ (io), 30 GND, 31 RSVD, 32 GND, 33 RSVD, 34 I2S_WA/SPI_MOSI (out), 35 I2S_TXD/SPI_CS (out), 36 I2S_CLK/SPI_CLK (out), 37 I2S_RXD/SPI_MISO (in), 38 SIM_CLK (out), 39 SIM_IO (io), 40 SIM_RST (out), 41 VSIM (out), 42 SIM_DET (io), 43 GND, 44 SDIO_D2 (io), 45 SDIO_CLK (out), 46 SDIO_CMD (io), 47 SDIO_D0 (io), 48 SDIO_D3 (io), 49 SDIO_D1 (io), 50 GND, 51 VCC (in), 52 VCC (in), 53 VCC (in), 54 GND, 55 GND, 56 ANT1 (io), 57 GND, 58 GND, 59 ANT_DET (in), 60 GND, 61 GND, 62 ANT2 (io), 63 GND, 64 GND
part B pins: 65 GND, 66 GND, 67 GND, 68 GND, 69 GND, 70 GND, 71 GND, 72 GND, 73 GND, 74 GND, 75 GND, 76 GND, 77 GND, 78 GND, 79 GND, 80 GND, 81 GND, 82 GND, 83 GND, 84 GND, 85 GND, 86 GND, 87 GND, 88 GND, 89 GND, 90 GND, 91 GND, 92 GND, 93 GND, 94 GND, 95 GND, 96 GND, 97 RSVD, 98 RSVD, 99 HSIC_DATA (io), 100 HSIC_STRB (io)

## LDL212PVR
designator U?
IC LDL212PVR Regulator LIN 1.18V 1.2A 6-WFDFN; Anunda_Code: M1927
footprint DFN6_2x2 (SON, 6-Leads, Body 2.00x2.00mm, Pitch 0.50mm, Thermal Pad 1.43x0.78mm, IPC Medium Density)
pins: 1 GND, 2 ADJ, 3 VOUT (power), 4 VIN (power), 5 NC, 6 EN (in), 7 TPAD

## LF353D
designator U?, comment LF353DR
IC LF353DR J-FET OP-AMP 2 Circuit 8-SOIC; Anunda_Code: M2071; Published: 16-Jan-2001; LatestRevisionDate: 13-Apr-2006; LatestRevisionNote: IPC-7351 Footprint Added.; DatasheetVersion: Aug-1994; PackageVersion: Jan-1998; PackageReference: D008; Publisher: Altium Limited; PackageDescription: 8-Pin Small Outline Integrated Circuit 1.27 mm Pitch; Code_IPC: SOIC127P600-8; Value: LF353DR
footprint SOIC-8_150mil
pins on every part: 4 V- (power), 8 V+ (power)
part A pins: 1 OUT (out), 2 IN- (in), 3 IN+ (in)
part B pins: 5 IN+ (in), 6 IN- (in), 7 OUT (out)
part A text: A
part B text: B

## Linkit7688
designator U?, comment Board Linkit7688
Linkit Smart 7688 (102110018) Controller; Anunda_Code: N2073
footprint Linkit7688Duo (Board Linkit7688 Duo 40 pin)
pins: 1 PORST_N, 2 GPIO43/EPHY_LED0_N, 3 MDI_RP_P0, 4 MDI_RN_P0, 5 MDI_TP_P0, 6 MDI_TN_P0, 7 USB_DP, 8 USB_DM, 9 GPIO20/UART_TXD2, 10 GPIO21/UART_RXD2, 11 GND, 12 3V3, 13 VCC, 14 5V, 15 GPIO2, 16 GPIO3, 17 GPIO0, 18 GPIO1, 19 RSVD, 20 RSVD, 21 GPIO37/REF_CLK, 22 GPIO44/WFLED, 23 GPIO46/RX1, 24 GPIO45/TX1, 25 GPIO13/RX0, 26 GPIO12/TX0, 27 GPIO5, 28 GPIO4, 29 SPI_MOSI, 30 SPI_MISO, 31 SPI_CLK, 32 GPIO6/SPI_CS1, 33 GPIO18/PWM0, 34 GPIO19/PWM1, 35 GPIO17/SPI_MOSI, 36 GPIO16/SPI_MISO, 37 GPIO15/SPI_CLK, 38 GPIO14/SPI_CS, 39 RSVD, 40 RSVD

## Linkit7688duo
designator U?, comment Board Linkit7688duo
footprint Linkit7688Duo (Board Linkit7688 Duo 40 pin)
pins: 1 PORST_N, 2 GPIO43/EPHY_LED0_N, 3 MDI_RP_P0, 4 MDI_RN_P0, 5 MDI_TP_P0, 6 MDI_TN_P0, 7 USB_DP, 8 USB_DM, 9 GPIO20/UART_TXD2, 10 GPIO21/UART_RXD2, 11 GND, 12 3V3, 13 VCC, 14 5V, 15 D18/PF0, 16 D19/PF1, 17 D20/PF4, 18 D21/PF5, 19 D22/PF6, 20 D23/PF7, 21 D14/PB3, 22 D15/PB2, 23 D16/PB1, 24 D17/PB0, 25 D0/PD2, 26 D1/PD3, 27 D2/PD1, 28 D3/PD0, 29 D4/PD4, 30 D5/PC6, 31 D6/PD7, 32 D7/PE6, 33 D8/PB4, 34 D9/PB5, 35 D10/PB6, 36 D11/PB7, 37 D12/PD6, 38 D13/PC7, 39 RST, 40 AREF

## LM1117MPX-3.3
designator U?
IC LM1117MPX-3.3/NOPB Reg LDO 3.3V 800mA SOT-223; Anunda_Code: M2121; MFG: Texas Instruments; MFG P/N: LM1117MPX-3.3/NOPB
footprint SOT223-3 (SOT-223/SC-73; 4 Leads; Body 6.7 x 7.3 mm, inc. leads (LxW max))
pins: 1 GND (power), 2 OUT (power), 3 IN (power), 4 OUT (power)

## LMV431ACM5/NOPB
designator U?
Low-Voltage (1.24V) Adjustable Precision Shunt Regulators, 5-pin SOT-23, Pb-Free; PackageTopMarking: N09A*XTT; PowerWise: N; Published: 1-Mar-2010; DatasheetVersion: May-2005; PackageVersion: revD, Aug-2008; PackageReference: MF05A; Publisher: Altium Limited; PackageDescription: Molded SOT-23, .115 x .063 x .040 in Body, 5 Lead, .0375 in Pitch; Supplier 1: Digi-Key; Supplier Part Number 1: LMV431ACM5/NOPBTR-ND; Supplier 2: Digi-Key; Supplier Part Number 2: LMV431ACM5/NOPBCT-ND; Supplier 3: Digi-Key; Supplier Part Number 3: LMV431ACM5/NOPBDKR-ND; Supplier 4: ES; Supplier Part Number 4: 0086-0744-1; MFG P/N: LMV431ACM5/NOPB; RoHS: Y; PinCount: 5
footprint SOT235 (SOT23, 5-Leads, Body 2.90x2.80mm, Pitch 0.95mm, IPC Medium Density)
footprint MF05A_L (SOT23, 5-Leads, Body 2.9x1.6mm, Pitch 0.95mm, Lead Span 2.8mm, IPC High Density)
footprint MF05A_M (SOT23, 5-Leads, Body 2.9x1.6mm, Pitch 0.95mm, Lead Span 2.8mm, IPC Low Density)
pins: 1 NC, 2 NC, 3 K, 4 REF (in), 5 A

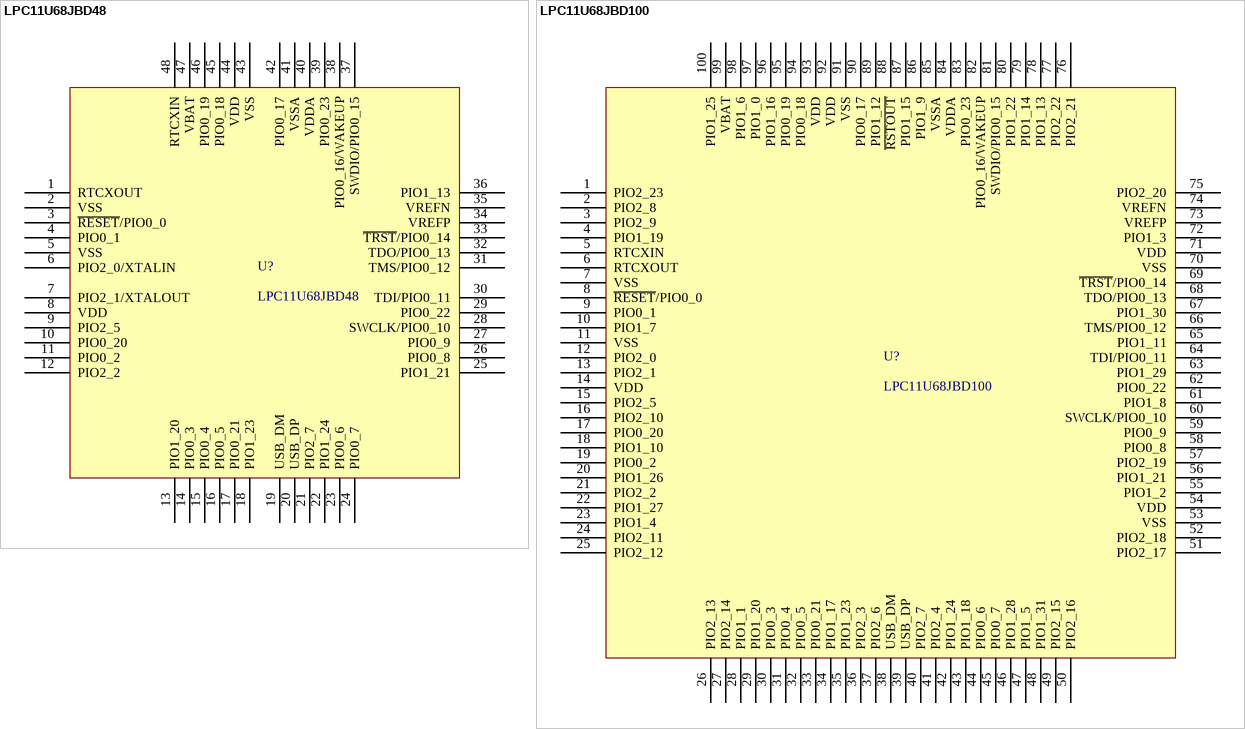
[diagram p4: symbols LPC11U68JBD48 to LPC11U68JBD100]

## LPC11U68JBD48
designator U?
LPC11U68JBD48  Cortex-M0+  NXP MCU
footprint LQFP-48_N (48-Pin Thin Quad Flat Pack 0.5 mm Pitch, IPC Medium Density)
pins: 1 RTCXOUT, 2 VSS, 3 ~{RESET}/PIO0_0, 4 PIO0_1, 5 VSS, 6 PIO2_0/XTALIN, 7 PIO2_1/XTALOUT, 8 VDD, 9 PIO2_5, 10 PIO0_20, 11 PIO0_2, 12 PIO2_2, 13 PIO1_20, 14 PIO0_3, 15 PIO0_4, 16 PIO0_5, 17 PIO0_21, 18 PIO1_23, 19 USB_DM, 20 USB_DP, 21 PIO2_7, 22 PIO1_24, 23 PIO0_6, 24 PIO0_7, 25 PIO1_21, 26 PIO0_8, 27 PIO0_9, 28 SWCLK/PIO0_10, 29 PIO0_22, 30 TDI/PIO0_11, 31 TMS/PIO0_12, 32 TDO/PIO0_13, 33 ~{TRST}/PIO0_14, 34 VREFP, 35 VREFN, 36 PIO1_13, 37 SWDIO/PIO0_15, 38 PIO0_16/WAKEUP, 39 PIO0_23, 40 VDDA, 41 VSSA, 42 PIO0_17, 43 VSS, 44 VDD, 45 PIO0_18, 46 PIO0_19, 47 VBAT, 48 RTCXIN

## LPC11U68JBD100
designator U?
IC LPC11U68JBD100 MCU 32bit ARM 256KB Flash USB 100pins LQFP-100; Anunda_Code: M1948
footprint LQFP100_N (Thin QFP, 100-Leads, Body 14x14mm, Pitch 0.5mm, IPC Medium Density)
pins: 1 PIO2_23, 2 PIO2_8, 3 PIO2_9, 4 PIO1_19, 5 RTCXIN, 6 RTCXOUT, 7 VSS, 8 ~{RESET}/PIO0_0, 9 PIO0_1, 10 PIO1_7, 11 VSS, 12 PIO2_0, 13 PIO2_1, 14 VDD, 15 PIO2_5, 16 PIO2_10, 17 PIO0_20, 18 PIO1_10, 19 PIO0_2, 20 PIO1_26, 21 PIO2_2, 22 PIO1_27, 23 PIO1_4, 24 PIO2_11, 25 PIO2_12, 26 PIO2_13, 27 PIO2_14, 28 PIO1_1, 29 PIO1_20, 30 PIO0_3, 31 PIO0_4, 32 PIO0_5, 33 PIO0_21, 34 PIO1_17, 35 PIO1_23, 36 PIO2_3, 37 PIO2_6, 38 USB_DM, 39 USB_DP, 40 PIO2_7, 41 PIO2_4, 42 PIO1_24, 43 PIO1_18, 44 PIO0_6, 45 PIO0_7, 46 PIO1_28, 47 PIO1_5, 48 PIO1_31, 49 PIO2_15, 50 PIO2_16, 51 PIO2_17, 52 PIO2_18, 53 VSS, 54 VDD, 55 PIO1_2, 56 PIO1_21, 57 PIO2_19, 58 PIO0_8, 59 PIO0_9, 60 SWCLK/PIO0_10, 61 PIO1_8, 62 PIO0_22, 63 PIO1_29, 64 TDI/PIO0_11, 65 PIO1_11, 66 TMS/PIO0_12, 67 PIO1_30, 68 TDO/PIO0_13, 69 ~{TRST}/PIO0_14, 70 VSS, 71 VDD, 72 PIO1_3, 73 VREFP, 74 VREFN, 75 PIO2_20, 76 PIO2_21, 77 PIO2_22, 78 PIO1_13, 79 PIO1_14, 80 PIO1_22, 81 SWDIO/PIO0_15, 82 PIO0_16/WAKEUP, 83 PIO0_23, 84 VDDA, 85 VSSA, 86 PIO1_9, 87 PIO1_15, 88 ~{RSTOUT}, 89 PIO1_12, 90 PIO0_17, 91 VSS, 92 VDD, 93 VDD, 94 PIO0_18, 95 PIO0_19, 96 PIO1_16, 97 PIO1_0, 98 PIO1_6, 99 VBAT, 100 PIO1_25

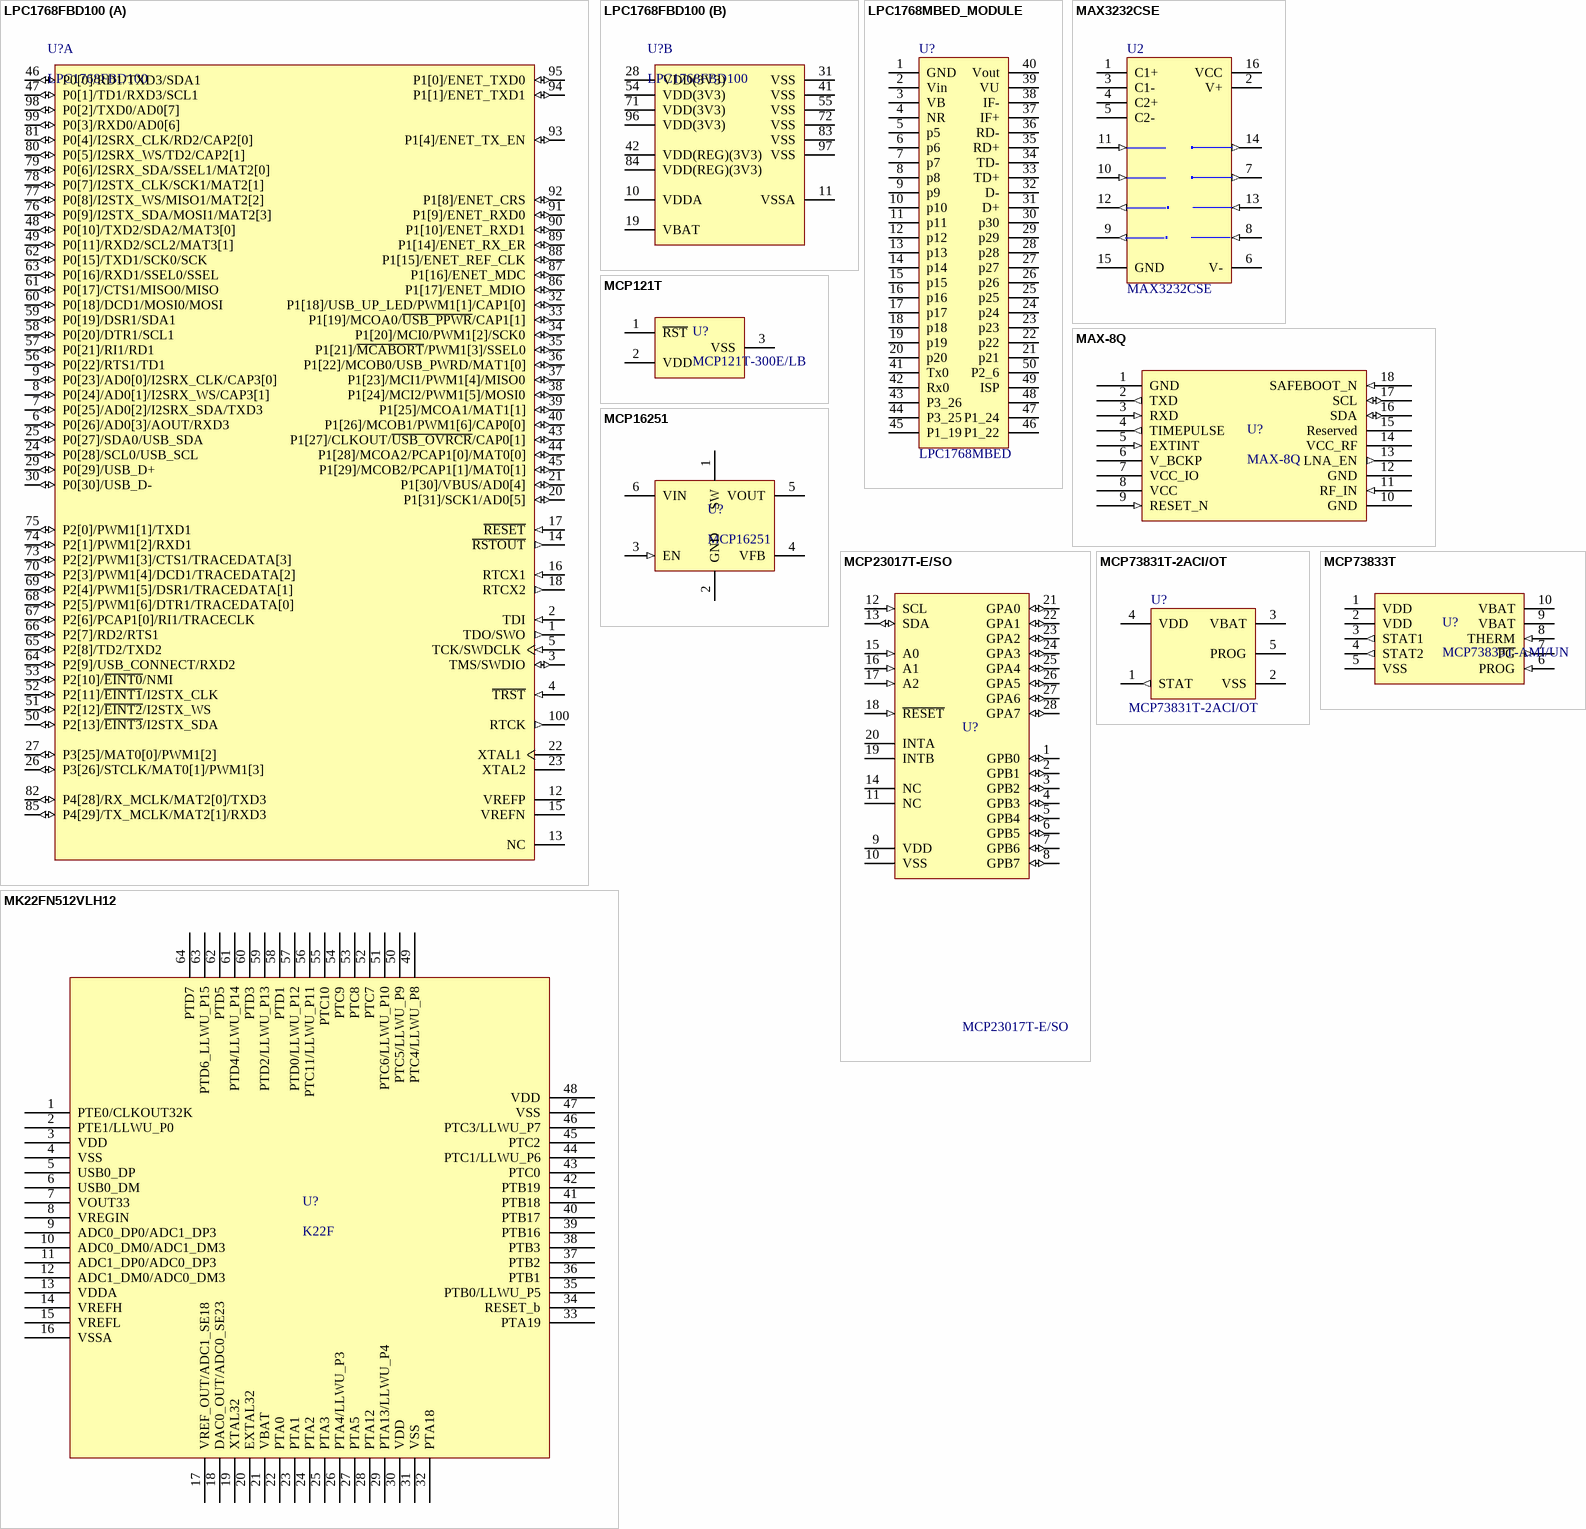
[diagram p5: symbols LPC1768FBD100 to MK22FN512VLH12]

## LPC1768FBD100
designator U?
32-Bit ARM Cortex-M3 Microcontroller, Ethernet, USB 2.0 Host / Device / OTG, CAN, 512 KB Flash, 64 KB SRAM, -40 to 85 degC, 100-Pin LQFP (SOT407-1), RoHS, Tray; MFG P/N: LPC1768FBD100K; Anunda_Code: M1200; MFG: NXP USA Inc.; RoHSCompliant: true; Width: 18.8 mm; DatasheetVersion: Rev. 9.6 , 08/2015; PackageReference: SOT407-1; Pins: 4; REACH SVHC: Unknown; Radiation Hardening: No; Packaging: Tray; PackageDescription: 100-Pin Plastic Low Profile Quad Flat Package, Body 14 x 14 mm; Value: LPC1768FBD100
footprint NXP-SOT407-1_V
part A pins: 1 TDO/SWO (out), 2 TDI (in), 3 TMS/SWDIO (io), 4 ~{TRST} (in), 5 TCK/SWDCLK (in), 6 P0[26]/AD0[3]/AOUT/RXD3 (io), 7 P0[25]/AD0[2]/I2SRX_SDA/TXD3 (io), 8 P0[24]/AD0[1]/I2SRX_WS/CAP3[1] (io), 9 P0[23]/AD0[0]/I2SRX_CLK/CAP3[0] (io), 12 VREFP, 13 NC, 14 ~{RSTOUT} (out), 15 VREFN, 16 RTCX1 (in), 17 ~{RESET} (in), 18 RTCX2 (out), 20 P1[31]/SCK1/AD0[5] (io), 21 P1[30]/VBUS/AD0[4] (io), 22 XTAL1, 23 XTAL2, 24 P0[28]/SCL0/USB_SCL (io), 25 P0[27]/SDA0/USB_SDA (io), 26 P3[26]/STCLK/MAT0[1]/PWM1[3] (io), 27 P3[25]/MAT0[0]/PWM1[2] (io), 29 P0[29]/USB_D+ (io), 30 P0[30]/USB_D- (io), 32 P1[18]/USB_UP_LED/PWM1[1]/CAP1[0] (io), 33 P1[19]/MCOA0/~{USB_PPWR}/CAP1[1] (io), 34 P1[20]/MCI0/PWM1[2]/SCK0 (io), 35 P1[21]/~{MCABORT}/PWM1[3]/SSEL0 (io), 36 P1[22]/MCOB0/USB_PWRD/MAT1[0] (io), 37 P1[23]/MCI1/PWM1[4]/MISO0 (io), 38 P1[24]/MCI2/PWM1[5]/MOSI0 (io), 39 P1[25]/MCOA1/MAT1[1] (io), 40 P1[26]/MCOB1/PWM1[6]/CAP0[0] (io), 43 P1[27]/CLKOUT/~{USB_OVRCR}/CAP0[1] (io), 44 P1[28]/MCOA2/PCAP1[0]/MAT0[0] (io), 45 P1[29]/MCOB2/PCAP1[1]/MAT0[1] (io), 46 P0[0]/RD1/TXD3/SDA1 (io), 47 P0[1]/TD1/RXD3/SCL1 (io), 48 P0[10]/TXD2/SDA2/MAT3[0] (io), 49 P0[11]/RXD2/SCL2/MAT3[1] (io), 50 P2[13]/~{EINT3}/I2STX_SDA (io), 51 P2[12]/~{EINT2}/I2STX_WS (io), 52 P2[11]/~{EINT1}/I2STX_CLK (io), 53 P2[10]/~{EINT0}/NMI (io), 56 P0[22]/RTS1/TD1 (io), 57 P0[21]/RI1/RD1 (io), 58 P0[20]/DTR1/SCL1 (io), 59 P0[19]/DSR1/SDA1 (io), 60 P0[18]/DCD1/MOSI0/MOSI (io), 61 P0[17]/CTS1/MISO0/MISO (io), 62 P0[15]/TXD1/SCK0/SCK (io), 63 P0[16]/RXD1/SSEL0/SSEL (io), 64 P2[9]/USB_CONNECT/RXD2 (io), 65 P2[8]/TD2/TXD2 (io), 66 P2[7]/RD2/RTS1 (io), 67 P2[6]/PCAP1[0]/RI1/TRACECLK (io), 68 P2[5]/PWM1[6]/DTR1/TRACEDATA[0] (io), 69 P2[4]/PWM1[5]/DSR1/TRACEDATA[1] (io), 70 P2[3]/PWM1[4]/DCD1/TRACEDATA[2] (io), 73 P2[2]/PWM1[3]/CTS1/TRACEDATA[3] (io), 74 P2[1]/PWM1[2]/RXD1 (io), 75 P2[0]/PWM1[1]/TXD1 (io), 76 P0[9]/I2STX_SDA/MOSI1/MAT2[3] (io), 77 P0[8]/I2STX_WS/MISO1/MAT2[2] (io), 78 P0[7]/I2STX_CLK/SCK1/MAT2[1] (io), 79 P0[6]/I2SRX_SDA/SSEL1/MAT2[0] (io), 80 P0[5]/I2SRX_WS/TD2/CAP2[1] (io), 81 P0[4]/I2SRX_CLK/RD2/CAP2[0] (io), 82 P4[28]/RX_MCLK/MAT2[0]/TXD3 (io), 85 P4[29]/TX_MCLK/MAT2[1]/RXD3 (io), 86 P1[17]/ENET_MDIO (io), 87 P1[16]/ENET_MDC (io), 88 P1[15]/ENET_REF_CLK (io), 89 P1[14]/ENET_RX_ER (io), 90 P1[10]/ENET_RXD1 (io), 91 P1[9]/ENET_RXD0 (io), 92 P1[8]/ENET_CRS (io), 93 P1[4]/ENET_TX_EN (io), 94 P1[1]/ENET_TXD1 (io), 95 P1[0]/ENET_TXD0 (io), 98 P0[2]/TXD0/AD0[7] (io), 99 P0[3]/RXD0/AD0[6] (io), 100 RTCK (out)
part B pins: 10 VDDA (power), 11 VSSA (power), 19 VBAT (power), 28 VDD(3V3) (power), 31 VSS (power), 41 VSS (power), 42 VDD(REG)(3V3) (power), 54 VDD(3V3) (power), 55 VSS (power), 71 VDD(3V3) (power), 72 VSS (power), 83 VSS (power), 84 VDD(REG)(3V3) (power), 96 VDD(3V3) (power), 97 VSS (power)

## LPC1768MBED_MODULE
designator U?, comment LPC1768MBED
LPC1768 MBED MODULE
footprint LPC_mini
pins: 1 GND, 2 Vin, 3 VB, 4 NR, 5 p5, 6 p6, 7 p7, 8 p8, 9 p9, 10 p10, 11 p11, 12 p12, 13 p13, 14 p14, 15 p15, 16 p16, 17 p17, 18 p18, 19 p19, 20 p20, 21 p21, 22 p22, 23 p23, 24 p24, 25 p25, 26 p26, 27 p27, 28 p28, 29 p29, 30 p30, 31 D+, 32 D-, 33 TD+, 34 TD-, 35 RD+, 36 RD-, 37 IF+, 38 IF-, 39 VU, 40 Vout, 41 Tx0, 42 Rx0, 43 P3_26, 44 P3_25, 45 P1_19, 46 P1_22, 47 P1_24, 48, 49 ISP, 50 P2_6

## MAX3232CSE
designator U2
3.0V TO 5.5V, Low-Power, up to 1Mbps, True RS-232 Transceiver Using Four 0.1ตF External Capacitor; Anunda_Code: M1363; MFG: Analog Devices Inc; MFG P/N: MAX3232CSE+T; Published: 16-Jan-2001; LatestRevisionDate: 13-Apr-2006; LatestRevisionNote: IPC-7351 Footprint Added.; DatasheetVersion: Mar-1999; PackageReference: NSO16; Publisher: Altium Limited; PackageDescription: 16-Pin Small Outline Integrated Circuit 1.27 mm Pitch; Code_JEDEC: MS-012-AC; Code_IPC: SOIC127P600-16
footprint SOIC16N_N (SOIC, 16-Leads, Body 9.9x3.9mm, Pitch 1.27mm, IPC Medium Density)
pins: 1 C1+, 2 V+ (power), 3 C1-, 4 C2+, 5 C2-, 6 V- (power), 7 T2OUT (out), 8 R2IN (in), 9 R2OUT (out), 10 T2IN (in), 11 T1IN (in), 12 R1OUT (out), 13 R1IN (in), 14 T1OUT (out), 15 GND (power), 16 VCC (power)

## MAX-8Q
designator U?
GNSS Module, Model : MAX-8Q with GPS, Ublox; Anunda_Code: N2035; Value: MAX-8Q
footprint MAX-8Q (MAX-8Q U-Blox GNSS)
pins: 1 GND, 2 TXD (out), 3 RXD (in), 4 TIMEPULSE (out), 5 EXTINT (in), 6 V_BCKP, 7 VCC_IO, 8 VCC, 9 RESET_N (in), 10 GND, 11 RF_IN (in), 12 GND, 13 LNA_EN (out), 14 VCC_RF, 15 Reserved, 16 SDA (io), 17 SCL (io), 18 SAFEBOOT_N (in)

## MCP121T
designator U?, comment MCP121T-300E/LB
MCP121T-300E/LB Micropower Voltage Supervisor 2.93V,Active LOW; Value: MCP121T-300E/LB
footprint SOT23_N_2
pins: 1 ~{RST}, 2 VDD, 3 VSS

## MCP16251
designator U?
Low Quiescent Current, PFM/PWM Synchronous Boost Regulator sot23-6
footprint SOT23-6
pins: 1 SW, 2 GND, 3 EN (in), 4 VFB, 5 VOUT, 6 VIN

## MCP23017T-E/SO
designator U?
16-Bit I/O Expander with Serial Interface, 28-Pin SOIC, Extended Temperature, Tape and Reel; Anunda_Code: M1934; DatasheetVersion: revB, Feb-2007; PackageVersion: revBB, Aug-2009; PackageReference: SOIC-SO28; Publisher: Altium Limited; PackageDescription: 28-Lead Plastic Small Outline (SO) - Wide 7.50mm Body [SOIC]; Supplier 1: Digi-Key; Supplier Part Number 1: MCP23017T-E/SO-ND; Supplier 2: Newark; Supplier Part Number 2: 31K2962; Code_JEDEC: MS-013
footprint SOIC-SO28_N (SOIC, 28-Leads, Body 17.9x7.5mm, Pitch 1.27mm, IPC Medium Density)
pins: 1 GPB0 (io), 2 GPB1 (io), 3 GPB2 (io), 4 GPB3 (io), 5 GPB4 (io), 6 GPB5 (io), 7 GPB6 (io), 8 GPB7 (io), 9 VDD (power), 10 VSS (power), 11 NC, 12 SCL (in), 13 SDA (io), 14 NC, 15 A0 (in), 16 A1 (in), 17 A2 (in), 18 ~{RESET} (in), 19 INTB (oc), 20 INTA (oc), 21 GPA0 (io), 22 GPA1 (io), 23 GPA2 (io), 24 GPA3 (io), 25 GPA4 (io), 26 GPA5 (io), 27 GPA6 (io), 28 GPA7 (io)

## MCP73831T-2ACI/OT
designator U?
Miniature Single-Cell, Fully Integrated Li-Ion, Li-Polymer Charge Management Controller, 4.2V, 5-Pin SOT-23, Industrial Temperature, Tape and Reel; Published: 29-Jan-2009; LatestRevisionDate: 27-Nov-2009; LatestRevisionNote: Updated to datasheet revision E, Sep-2008; DatasheetVersion: revE, Sep-2008; PackageVersion: revBB, Aug-2009; PackageReference: SOT-23-OT5; Publisher: Altium Limited; PackageDescription: 5-Lead Plastic Small Outline Transistor (OT) [SOT-23]; Supplier 1: Digi-Key; Supplier Part Number 1: MCP73831T-2ACI/OTTR-ND; Supplier 2: Digi-Key; Supplier Part Number 2: MCP73831T-2ACI/OTCT-ND; Supplier 3: Digi-Key; Supplier Part Number 3: MCP73831T-2ACI/OTDKR-ND; Supplier 4: Farnell; Supplier Part Number 4: 1332158; Code_IPC: SOT23-5
footprint SOT235 (SOT23, 5-Leads, Body 2.90x2.80mm, Pitch 0.95mm, IPC Medium Density)
pins: 1 STAT (out), 2 VSS (power), 3 VBAT (power), 4 VDD (power), 5 PROG

## MCP73833T
designator U?, comment MCP73833T-AMI/UN
MCP73833T Stand-Alone Linear Li-Ion / Li-Po Charge / Management Controller; Value: MCP73833T-AMI/UN
footprint MSOP10 (TSSOP, 10-Leads, Body 3.00x3.00mm, Pitch 0.50mm, IPC Medium Density)
pins: 1 VDD, 2 VDD, 3 STAT1 (out), 4 STAT2 (out), 5 VSS, 6 PROG (in), 7 ~{PG} (out), 8 THERM (in), 9 VBAT, 10 VBAT

## MK22FN512VLH12
designator U?, comment K22F
IC MK22FN512VLH12 MCU 32-Bit 512KB Flash 64LQFP ARM Cortec-M4; Anunda_Code: M2051
footprint LQFP64 (TSQFP, 64-Leads, Body 10.00x10.00mm, Pitch 0.50mm, IPC Medium Density)
pins: 1 PTE0/CLKOUT32K, 2 PTE1/LLWU_P0, 3 VDD, 4 VSS, 5 USB0_DP, 6 USB0_DM, 7 VOUT33, 8 VREGIN, 9 ADC0_DP0/ADC1_DP3, 10 ADC0_DM0/ADC1_DM3, 11 ADC1_DP0/ADC0_DP3, 12 ADC1_DM0/ADC0_DM3, 13 VDDA, 14 VREFH, 15 VREFL, 16 VSSA, 17 VREF_OUT/ADC1_SE18, 18 DAC0_OUT/ADC0_SE23, 19 XTAL32, 20 EXTAL32, 21 VBAT, 22 PTA0, 23 PTA1, 24 PTA2, 25 PTA3, 26 PTA4/LLWU_P3, 27 PTA5, 28 PTA12, 29 PTA13/LLWU_P4, 30 VDD, 31 VSS, 32 PTA18, 33 PTA19, 34 RESET_b, 35 PTB0/LLWU_P5, 36 PTB1, 37 PTB2, 38 PTB3, 39 PTB16, 40 PTB17, 41 PTB18, 42 PTB19, 43 PTC0, 44 PTC1/LLWU_P6, 45 PTC2, 46 PTC3/LLWU_P7, 47 VSS, 48 VDD, 49 PTC4/LLWU_P8, 50 PTC5/LLWU_P9, 51 PTC6/LLWU_P10, 52 PTC7, 53 PTC8, 54 PTC9, 55 PTC10, 56 PTC11/LLWU_P11, 57 PTD0/LLWU_P12, 58 PTD1, 59 PTD2/LLWU_P13, 60 PTD3, 61 PTD4/LLWU_P14, 62 PTD5, 63 PTD6_LLWU_P15, 64 PTD7

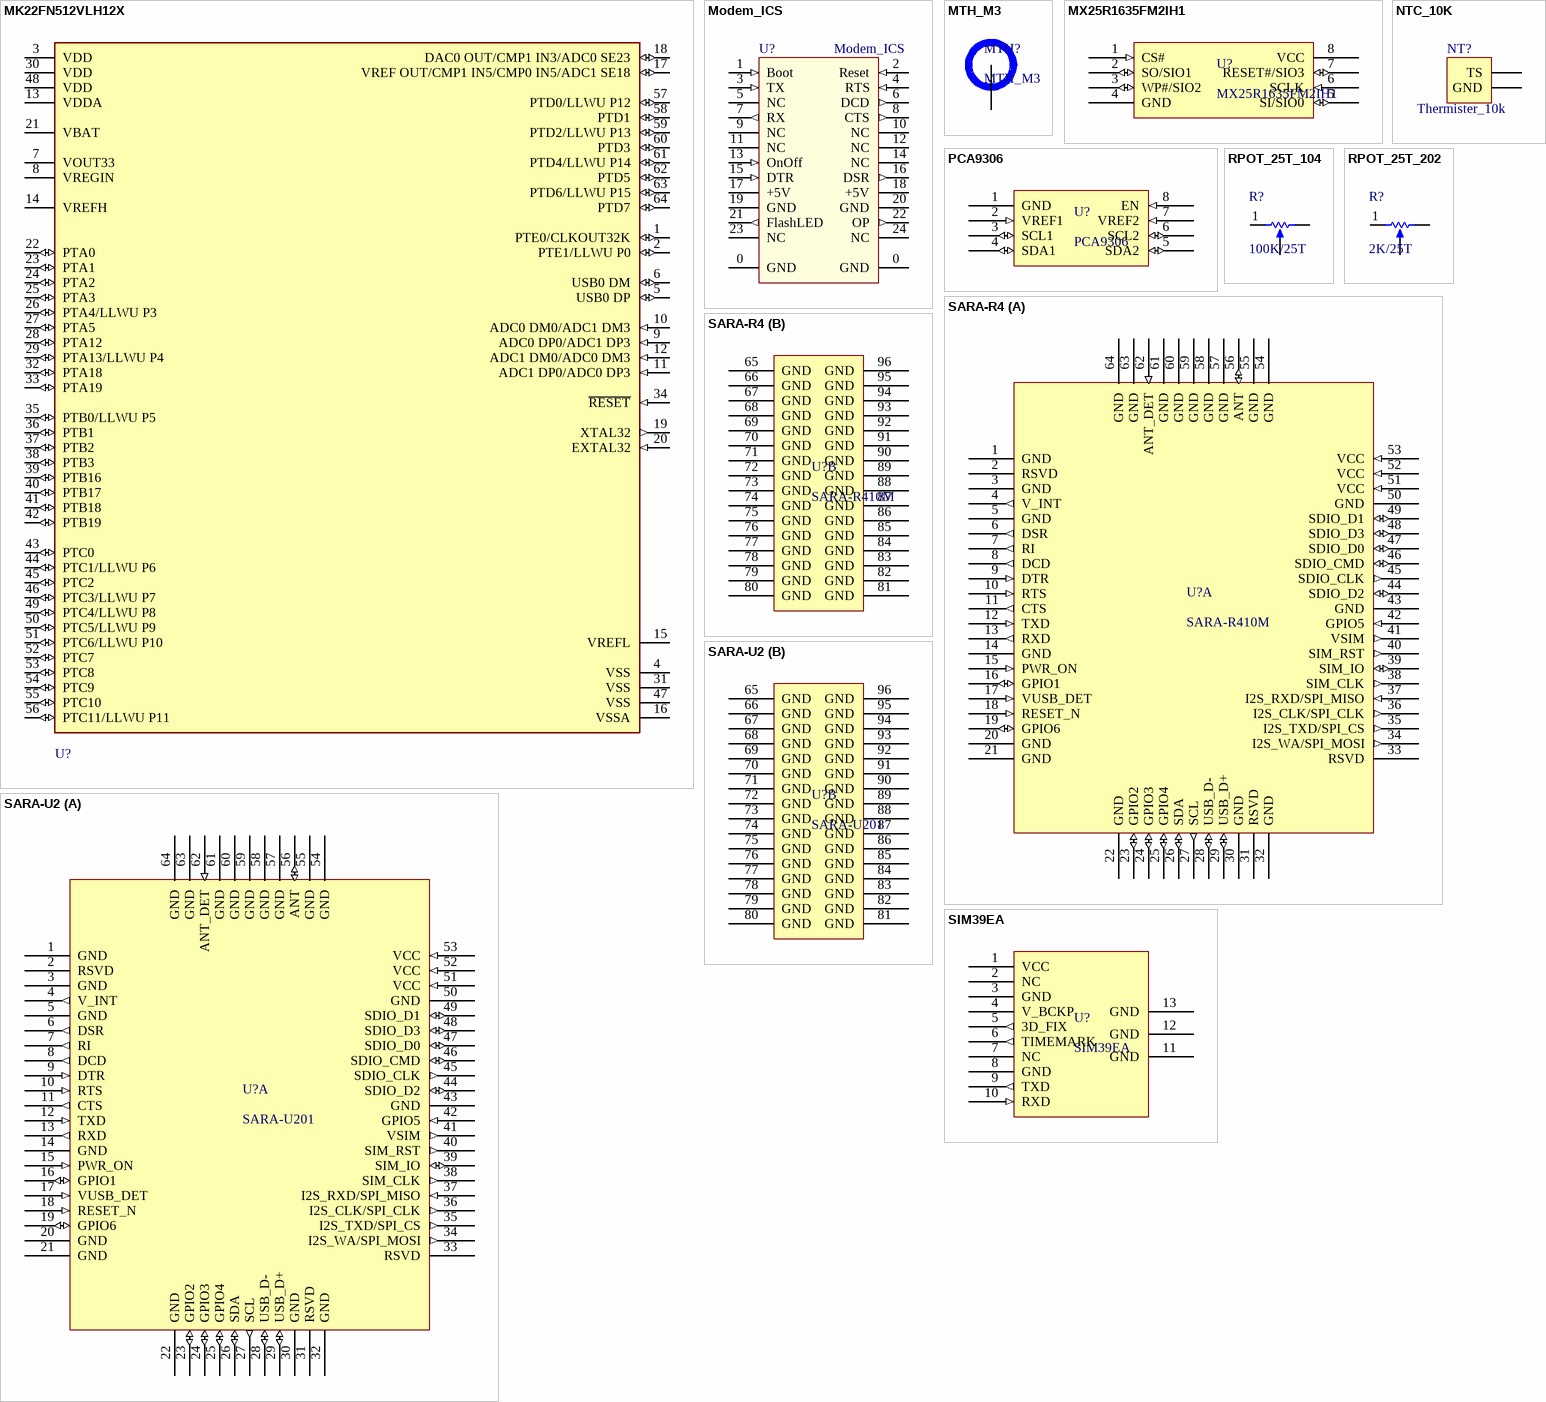
[diagram p6: symbols MK22FN512VLH12X to SIM39EA]

## MK22FN512VLH12X
designator U?, comment MK22FN512VLH12  (value not drawn)
IC MK22FN512VLH12 MCU 32-Bit 512KB Flash 64LQFP ARM Cortec-M4; Anunda_Code: M2051; Value: MK22FN512VLH12
footprint LQFP64_WFID (TSQFP, 64-Leads, Body 10.00x10.00mm, Pitch 0.50mm, IPC Medium Density)
pins: 1 PTE0/CLKOUT32K (io), 2 PTE1/LLWU P0 (io), 3 VDD (power), 4 VSS (power), 5 USB0 DP (io), 6 USB0 DM (io), 7 VOUT33 (power), 8 VREGIN (power), 9 ADC0 DP0/ADC1 DP3 (in), 10 ADC0 DM0/ADC1 DM3 (in), 11 ADC1 DP0/ADC0 DP3 (in), 12 ADC1 DM0/ADC0 DM3 (in), 13 VDDA (power), 14 VREFH (power), 15 VREFL (power), 16 VSSA (power), 17 VREF OUT/CMP1 IN5/CMP0 IN5/ADC1 SE18 (io), 18 DAC0 OUT/CMP1 IN3/ADC0 SE23 (io), 19 XTAL32 (out), 20 EXTAL32 (in), 21 VBAT (power), 22 PTA0 (io), 23 PTA1 (io), 24 PTA2 (io), 25 PTA3 (io), 26 PTA4/LLWU P3 (io), 27 PTA5 (io), 28 PTA12 (io), 29 PTA13/LLWU P4 (io), 30 VDD (power), 31 VSS (power), 32 PTA18 (io), 33 PTA19 (io), 34 ~{RESET} (in), 35 PTB0/LLWU P5 (io), 36 PTB1 (io), 37 PTB2 (io), 38 PTB3 (io), 39 PTB16 (io), 40 PTB17 (io), 41 PTB18 (io), 42 PTB19 (io), 43 PTC0 (io), 44 PTC1/LLWU P6 (io), 45 PTC2 (io), 46 PTC3/LLWU P7 (io), 47 VSS (power), 48 VDD (power), 49 PTC4/LLWU P8 (io), 50 PTC5/LLWU P9 (io), 51 PTC6/LLWU P10 (io), 52 PTC7 (io), 53 PTC8 (io), 54 PTC9 (io), 55 PTC10 (io), 56 PTC11/LLWU P11 (io), 57 PTD0/LLWU P12 (io), 58 PTD1 (io), 59 PTD2/LLWU P13 (io), 60 PTD3 (io), 61 PTD4/LLWU P14 (io), 62 PTD5 (io), 63 PTD6/LLWU P15 (io), 64 PTD7 (io)

## Modem_ICS
designator U?
footprint Modem1_ICS (first modem design footprint)
pins: 0 GND (power), 0 GND (power), 1 Boot (in), 2 Reset (in), 3 TX (in), 4 RTS (in), 5 NC (hiz), 6 DCD (out), 7 RX (out), 8 CTS (out), 9 NC (hiz), 10 NC (hiz), 11 NC (hiz), 12 NC (hiz), 13 OnOff (in), 14 NC (hiz), 15 DTR (in), 16 DSR (out), 17 +5V (power), 18 +5V (power), 19 GND (power), 20 GND (power), 21 FlashLED (out), 22 OP (out), 23 NC (hiz), 24 NC (hiz)

## MTH_M3
designator MTH?  (no BOM)
Mounting Hole M3 diameter 3.2mm
footprint PTH_M3 (Mounting Hole M3  hole 3.2mm Dia 6 mm)
pins: 0 MTH

## MX25R1635FM2IH1
designator U?
NOR-Flash Macronix MX25R1635FM2IH1; Anunda_Code: M1945; MFG P/N: MX25R1635FM2IL0; MFG: Macronix
footprint SOIC-8_208mil
pins: 1 CS# (in), 2 SO/SIO1 (io), 3 WP#/SIO2 (io), 4 GND, 5 SI/SIO0 (io), 6 SCLK (in), 7 RESET#/SIO3 (io), 8 VCC (power)

## NTC_10K
designator NT?, comment Thermister_10k
NTC 10K , 2-Pin; LatestRevisionDate: 17-Jul-2002; LatestRevisionNote: Re-released for DXP Platform.; Publisher: Altium Limited
footprint NTC1X2 (NTC Connector; Header; 1x2 Position)
pins: 1 GND, 2 TS

## PCA9306
designator U?
IC VOLT-LVL TRANSL PCA9306DTR2G Translator TSSOP-8; Anunda_Code: M1920
footprint TSSOP8 (TSSOP, 8-Leads, Body 3.00x4.40mm, Pitch 0.65mm, IPC Medium Density)
pins: 1 GND, 2 VREF1 (in), 3 SCL1 (io), 4 SDA1 (io), 5 SDA2 (io), 6 SCL2 (io), 7 VREF2 (in), 8 EN (in)

## RPOT_25T_104
designator R?, comment 100K/25T
Potentiometer 100 kOhm 25T Top Adj.; Sim Note: Enter the Resistance value and the set point into parameter fields.; Set Position: 0.5; Published: 8-Jun-2000; LatestRevisionDate: 17-Jul-2002; LatestRevisionNote: Re-released for DXP Platform.; PackageReference: VR5; Publisher: Altium Limited; Value: 100K/25T; Anunda_Code: *
footprint 3296W (3296-3/8 Square Trimming Pot Ver adj.)
simulation model POT (Potentiometer)
pins: 1 CCW, 2 TAP, 3 CW
1 alternate drawing of the same symbol

## RPOT_25T_202
designator R?, comment 2K/25T
Potentiometer 2 kOhm 25T Top Adj.; Sim Note: Enter the Resistance value and the set point into parameter fields.; Set Position: 0.5; Anunda_Code: M1330; Published: 8-Jun-2000; LatestRevisionDate: 17-Jul-2002; LatestRevisionNote: Re-released for DXP Platform.; PackageReference: VR5; Publisher: Altium Limited; Value: 2K/25T
footprint 3296W (3296-3/8 Square Trimming Pot Ver adj.)
simulation model POT (Potentiometer)
pins: 1 CCW, 2 TAP, 3 CW
1 alternate drawing of the same symbol

## SARA-R4
designator U?, comment SARA-R410M
LTE NB-IoT Module, Model : SARA-R410M Cat.M1, Ublox; Anunda_Code: N2034; Value: SARA-R410M
footprint SARA - LPAD (SARA UBLOX MODULE)
part A pins: 1 GND, 2 RSVD, 3 GND, 4 V_INT (out), 5 GND, 6 DSR (out), 7 RI (out), 8 DCD (out), 9 DTR (in), 10 RTS (in), 11 CTS (out), 12 TXD (in), 13 RXD (out), 14 GND, 15 PWR_ON (in), 16 GPIO1 (io), 17 VUSB_DET (in), 18 RESET_N (in), 19 GPIO6 (io), 20 GND, 21 GND, 22 GND, 23 GPIO2 (io), 24 GPIO3 (io), 25 GPIO4 (io), 26 SDA (io), 27 SCL (out), 28 USB_D- (io), 29 USB_D+ (io), 30 GND, 31 RSVD, 32 GND, 33 RSVD, 34 I2S_WA/SPI_MOSI (out), 35 I2S_TXD/SPI_CS (out), 36 I2S_CLK/SPI_CLK (out), 37 I2S_RXD/SPI_MISO (in), 38 SIM_CLK (out), 39 SIM_IO (io), 40 SIM_RST (out), 41 VSIM (out), 42 GPIO5 (in), 43 GND, 44 SDIO_D2 (io), 45 SDIO_CLK (out), 46 SDIO_CMD (io), 47 SDIO_D0 (io), 48 SDIO_D3 (io), 49 SDIO_D1 (io), 50 GND, 51 VCC (in), 52 VCC (in), 53 VCC (in), 54 GND, 55 GND, 56 ANT (io), 57 GND, 58 GND, 59 GND, 60 GND, 61 GND, 62 ANT_DET (in), 63 GND, 64 GND
part B pins: 65 GND, 66 GND, 67 GND, 68 GND, 69 GND, 70 GND, 71 GND, 72 GND, 73 GND, 74 GND, 75 GND, 76 GND, 77 GND, 78 GND, 79 GND, 80 GND, 81 GND, 82 GND, 83 GND, 84 GND, 85 GND, 86 GND, 87 GND, 88 GND, 89 GND, 90 GND, 91 GND, 92 GND, 93 GND, 94 GND, 95 GND, 96 GND

## SARA-U2
designator U?, comment SARA-U201
HSPA/GSM Module, Model : SARA-U201 for Global coverage, Ublox; Anunda_Code: N2036; Value: SARA-U201
footprint SARA - LPAD (SARA UBLOX MODULE)
part A pins: 1 GND, 2 RSVD, 3 GND, 4 V_INT (out), 5 GND, 6 DSR (out), 7 RI (out), 8 DCD (out), 9 DTR (in), 10 RTS (in), 11 CTS (out), 12 TXD (in), 13 RXD (out), 14 GND, 15 PWR_ON (in), 16 GPIO1 (io), 17 VUSB_DET (in), 18 RESET_N (in), 19 GPIO6 (io), 20 GND, 21 GND, 22 GND, 23 GPIO2 (io), 24 GPIO3 (io), 25 GPIO4 (io), 26 SDA (io), 27 SCL (out), 28 USB_D- (io), 29 USB_D+ (io), 30 GND, 31 RSVD, 32 GND, 33 RSVD, 34 I2S_WA/SPI_MOSI (out), 35 I2S_TXD/SPI_CS (out), 36 I2S_CLK/SPI_CLK (out), 37 I2S_RXD/SPI_MISO (in), 38 SIM_CLK (out), 39 SIM_IO (io), 40 SIM_RST (out), 41 VSIM (out), 42 GPIO5 (in), 43 GND, 44 SDIO_D2 (io), 45 SDIO_CLK (out), 46 SDIO_CMD (io), 47 SDIO_D0 (io), 48 SDIO_D3 (io), 49 SDIO_D1 (io), 50 GND, 51 VCC (in), 52 VCC (in), 53 VCC (in), 54 GND, 55 GND, 56 ANT (io), 57 GND, 58 GND, 59 GND, 60 GND, 61 GND, 62 ANT_DET (in), 63 GND, 64 GND
part B pins: 65 GND, 66 GND, 67 GND, 68 GND, 69 GND, 70 GND, 71 GND, 72 GND, 73 GND, 74 GND, 75 GND, 76 GND, 77 GND, 78 GND, 79 GND, 80 GND, 81 GND, 82 GND, 83 GND, 84 GND, 85 GND, 86 GND, 87 GND, 88 GND, 89 GND, 90 GND, 91 GND, 92 GND, 93 GND, 94 GND, 95 GND, 96 GND

## SIM39EA
designator U?
pins: 1 VCC, 2 NC, 3 GND, 4 V_BCKP, 5 3D_FIX (out), 6 TIMEMARK (out), 7 NC, 8 GND, 9 TXD (out), 10 RXD (in), 11 GND, 12 GND, 13 GND

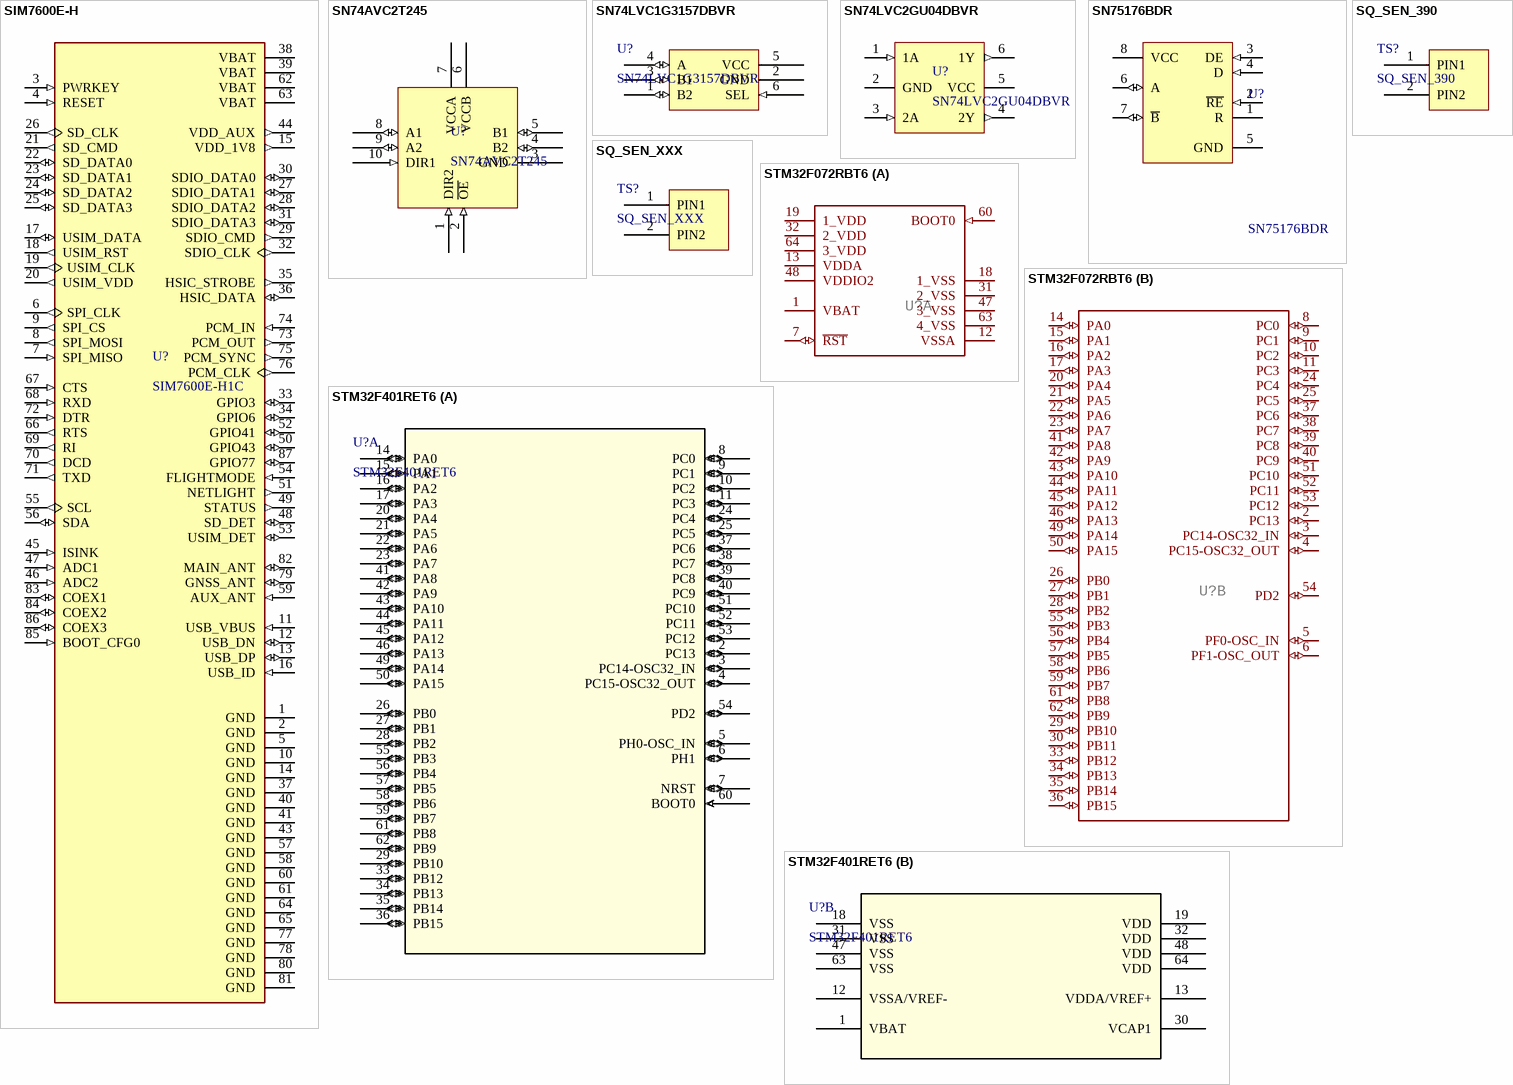
[diagram p7: symbols SIM7600E-H to STM32F401RET6]

## SIM7600E-H
designator U?, comment SIM7600E-H1C
4G LTE Module, Model : SIM7600E-H1C, SIMCOM; Anunda_Code: N2573; MP: SIM7600E-H; Package: None; MF: Simcom; Value: *; Price: None; SnapEDA_Link: https://www.snapeda.com/parts/SIM7600E-H/SIMcom%20Wireless%20solutions%20Co.%2CLtd/view-part/2758290/?ref=snap
footprint SIM7600E_H (LCC Package 87pin)
pins: 1 GND (power), 2 GND (power), 3 PWRKEY (in), 4 RESET (in), 5 GND (power), 6 SPI_CLK (out), 7 SPI_MISO (in), 8 SPI_MOSI (out), 9 SPI_CS (out), 10 GND (power), 11 USB_VBUS (in), 12 USB_DN (io), 13 USB_DP (io), 14 GND (power), 15 VDD_1V8 (out), 16 USB_ID (in), 17 USIM_DATA (io), 18 USIM_RST (out), 19 USIM_CLK (out), 20 USIM_VDD (out), 21 SD_CMD (out), 22 SD_DATA0 (io), 23 SD_DATA1 (io), 24 SD_DATA2 (io), 25 SD_DATA3 (io), 26 SD_CLK (out), 27 SDIO_DATA1 (io), 28 SDIO_DATA2 (io), 29 SDIO_CMD (out), 30 SDIO_DATA0 (io), 31 SDIO_DATA3 (io), 32 SDIO_CLK (out), 33 GPIO3 (io), 34 GPIO6 (io), 35 HSIC_STROBE (out), 36 HSIC_DATA (io), 37 GND (power), 38 VBAT (power), 39 VBAT (power), 40 GND (power), 41 GND (power), 43 GND (power), 44 VDD_AUX (out), 45 ISINK (in), 46 ADC2 (in), 47 ADC1 (in), 48 SD_DET (io), 49 STATUS (out), 50 GPIO43 (io), 51 NETLIGHT (out), 52 GPIO41 (io), 53 USIM_DET (io), 54 FLIGHTMODE (in), 55 SCL (out), 56 SDA (io), 57 GND (power), 58 GND (power), 59 AUX_ANT (in), 60 GND (power), 61 GND (power), 62 VBAT (power), 63 VBAT (power), 64 GND (power), 65 GND (power), 66 RTS (out), 67 CTS (in), 68 RXD (in), 69 RI (out), 70 DCD (out), 71 TXD (out), 72 DTR (in), 73 PCM_OUT (out), 74 PCM_IN (in), 75 PCM_SYNC (out), 76 PCM_CLK (out), 77 GND (power), 78 GND (power), 79 GNSS_ANT (io), 80 GND (power), 81 GND (power), 82 MAIN_ANT (io), 83 COEX1 (io), 84 COEX2 (io), 85 BOOT_CFG0 (in), 86 COEX3 (io), 87 GPIO77 (io)

## SN74AVC2T245
designator U?
SN74AVC2T245  Dual-Bit  Dual-Supply  Bus Transceiver  with Configurable  Level-Shifting  /  Voltage  Translation  and Tri-State  Outputs
footprint 10-UQFN (PQFN, 10-Leads, Body 1.40x1.80mm, Pitch 0.40mm, IPC Medium Density)
pins: 1 DIR2 (in), 2 ~{OE} (in), 3 GND, 4 B2 (io), 5 B1 (io), 6 VCCB, 7 VCCA, 8 A1 (io), 9 A2 (io), 10 DIR1 (in)

## SN74LVC1G3157DBVR
designator U?
IC SN74LVC1G3157DBVR Analog Switch SPDT 340 MHz 1.65V to 5.5V; Anunda_Code: M2090
footprint SOT23-6
pins: 1 B2 (io), 2 GND, 3 B1 (io), 4 A (io), 5 VCC, 6 SEL (in)

## SN74LVC2GU04DBVR
designator U?
SN74LVC2GU04DBVR  sot-23-6
footprint SOT23-6
pins: 1 1A (in), 2 GND, 3 2A (in), 4 2Y (out), 5 VCC (power), 6 1Y (out)

## SN75176BDR
designator U?
SN75176 Differential Bus TransceiverRS-485/RS-422; Anunda_Code: M2010; Published: 15-May-2002; LatestRevisionDate: 13-Apr-2006; LatestRevisionNote: IPC-7351 Footprint Added.; DatasheetVersion: May-1990; PackageVersion: Jan-1998; PackageReference: D008; Publisher: Altium Limited; PackageDescription: 8-Pin Small Outline Integrated Circuit 1.27 mm Pitch; Code_IPC: SOIC127P600-8
3D model D008 (8-Pin Small Outline Integrated Circuit 1.27 mm Pitch)
footprint SOIC127P600X175-8N (SOIC, 8-Leads, Body 4.90x3.90mm, Pitch 1.27mm, IPC Medium Density)
pins: 1 R (hiz), 2 ~{RE} (in), 3 DE (in), 4 D (in), 5 GND (power), 6 A (io), 7 ~{B} (io), 8 VCC (power)

## SQ_SEN_390
designator TS?
Sensor SQ-SEN-390 On/Off Tilt sensor; Anunda_Code: N2240
footprint SQ_SEN_XXX (SQ_SEN_XXX tilt detect sensor 3.3mmx6.9mm)
pins: 1 PIN1, 2 PIN2

## SQ_SEN_XXX
designator TS?
Tilt Detect Switch SQ-SEN-XXX
footprint SQ_SEN_XXX (SQ_SEN_XXX tilt detect sensor 3.3mmx6.9mm)
pins: 1 PIN1, 2 PIN2

## STM32F072RBT6
designator U?  (value not drawn)
SymbolName_1: STMICROELECTRONICS_STM32F072RBT6_0_0; SymbolName_2: STMICROELECTRONICS_STM32F072RBT6_0_1; ambient_temperature_range_low: -40ฐC; ambient_temperature_range_high: +85ฐC; temperature_range_high: +105ฐC; RAM_size: 16KBytes; MF: STMicroelectronics; prefix: U; verification_version: 0.0.0.3; mfg_package_ident: LQFP64-5W; standoff_height: 0.05mm; Package: STMICROELECTRONICS_STM32F072RBT6_0; digikey_part_number: 497-14644-ND; MPN: STM32F072RBT6; rohs: Yes; datasheet: https://www.st.com/resource/en/datasheet/stm32f072rb.pdf; temperature_range_low: -40ฐC; digikey_description: IC MCU 32BIT 128KB FLASH 64LQFP; package: LQFP64
footprint LQFP64_WFID (TSQFP, 64-Leads, Body 10.00x10.00mm, Pitch 0.50mm, IPC Medium Density)
part A pins: 1 VBAT (power), 7 ~{RST} (io), 12 VSSA (power), 13 VDDA (power), 18 1_VSS (power), 19 1_VDD (power), 31 2_VSS (power), 32 2_VDD (power), 47 3_VSS (power), 48 VDDIO2 (power), 60 BOOT0 (in), 63 4_VSS (power), 64 3_VDD (power)
part B pins: 2 PC13 (io), 3 PC14-OSC32_IN (io), 4 PC15-OSC32_OUT (io), 5 PF0-OSC_IN (io), 6 PF1-OSC_OUT (io), 8 PC0 (io), 9 PC1 (io), 10 PC2 (io), 11 PC3 (io), 14 PA0 (io), 15 PA1 (io), 16 PA2 (io), 17 PA3 (io), 20 PA4 (io), 21 PA5 (io), 22 PA6 (io), 23 PA7 (io), 24 PC4 (io), 25 PC5 (io), 26 PB0 (io), 27 PB1 (io), 28 PB2 (io), 29 PB10 (io), 30 PB11 (io), 33 PB12 (io), 34 PB13 (io), 35 PB14 (io), 36 PB15 (io), 37 PC6 (io), 38 PC7 (io), 39 PC8 (io), 40 PC9 (io), 41 PA8 (io), 42 PA9 (io), 43 PA10 (io), 44 PA11 (io), 45 PA12 (io), 46 PA13 (io), 49 PA14 (io), 50 PA15 (io), 51 PC10 (io), 52 PC11 (io), 53 PC12 (io), 54 PD2 (io), 55 PB3 (io), 56 PB4 (io), 57 PB5 (io), 58 PB6 (io), 59 PB7 (io), 61 PB8 (io), 62 PB9 (io)